# Altium schematic symbol library Main.SchLib: 196 symbols (part 4 of 4)
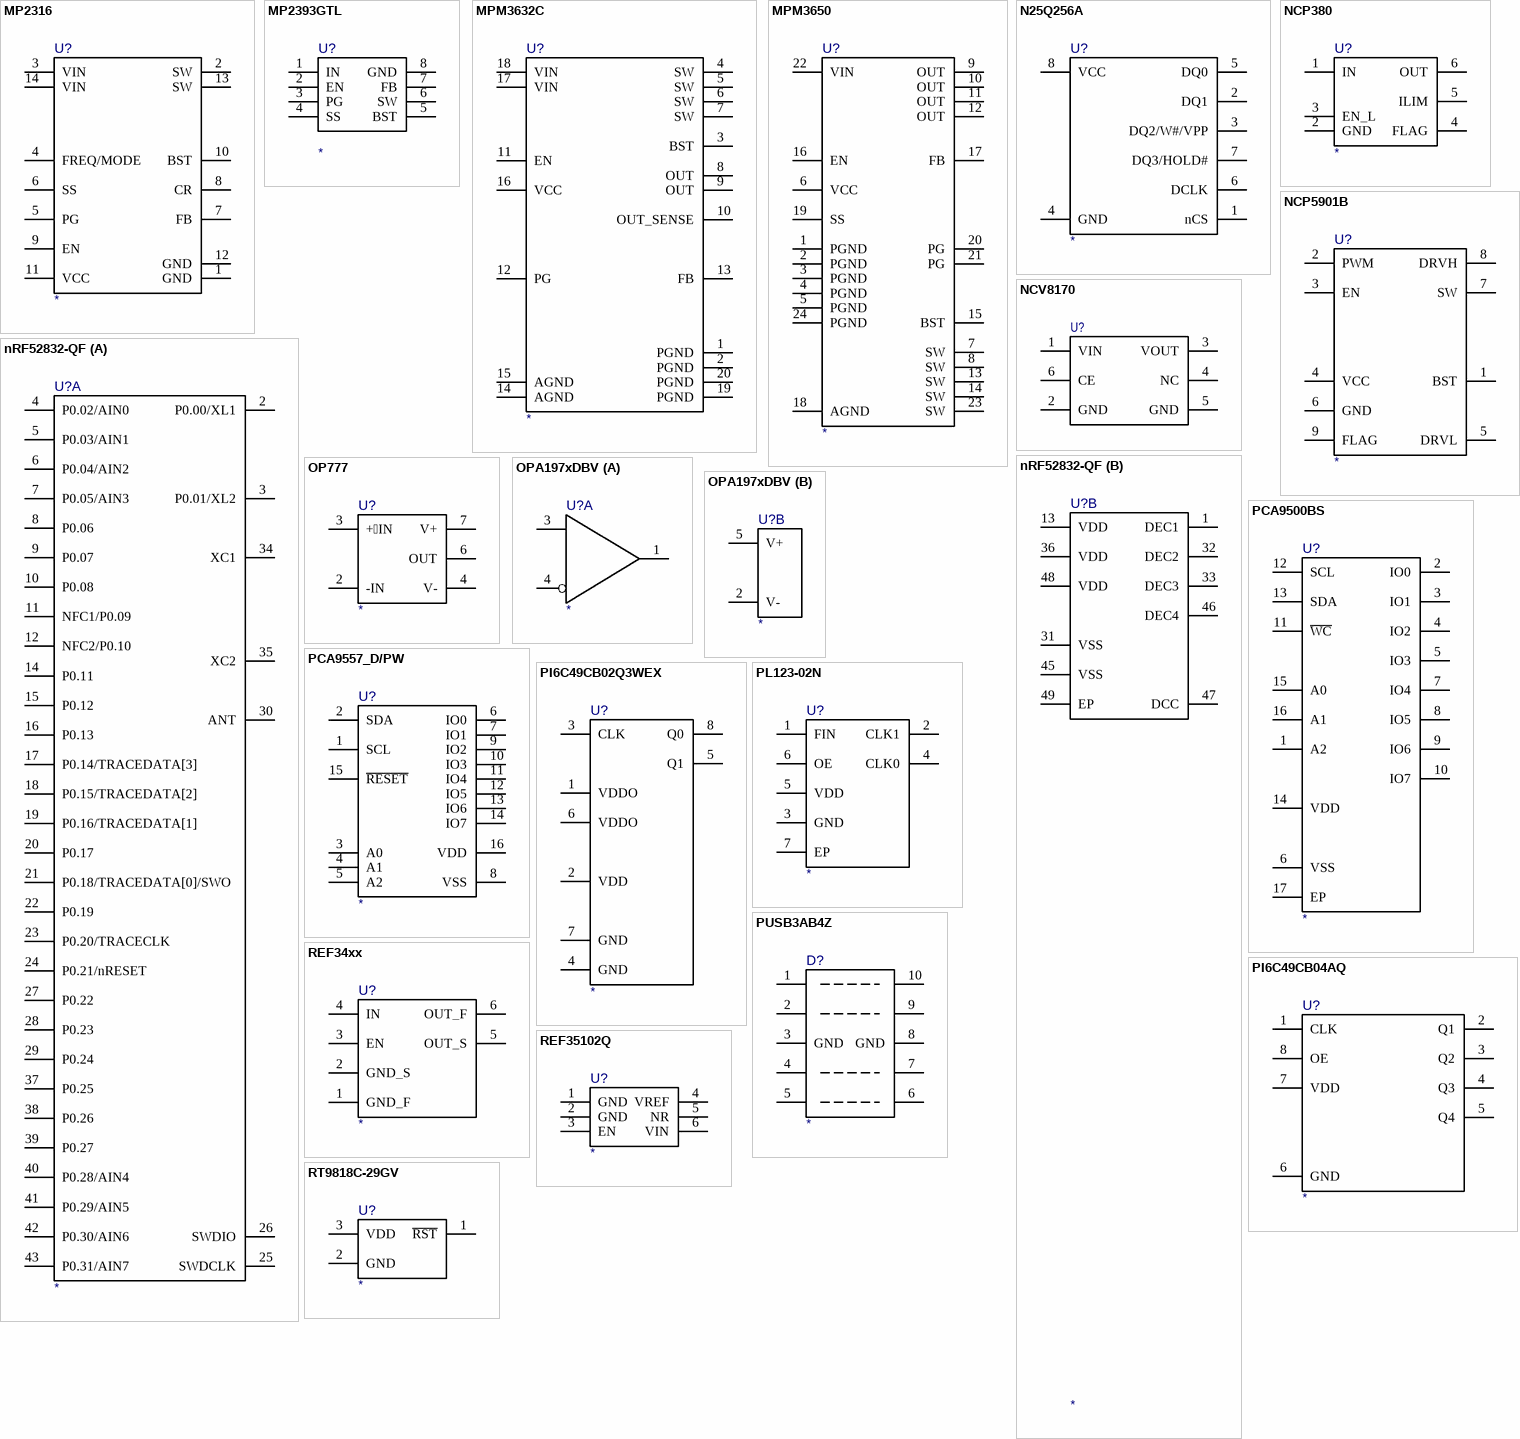
[diagram p43: symbols MP2316 to RT9818C-29GV]

## nRF52832-QF
designator U?
part A pins: 2 P0.00/XL1, 3 P0.01/XL2, 4 P0.02/AIN0, 5 P0.03/AIN1, 6 P0.04/AIN2, 7 P0.05/AIN3, 8 P0.06, 9 P0.07, 10 P0.08, 11 NFC1/P0.09, 12 NFC2/P0.10, 14 P0.11, 15 P0.12, 16 P0.13, 17 P0.14/TRACEDATA[3], 18 P0.15/TRACEDATA[2], 19 P0.16/TRACEDATA[1], 20 P0.17, 21 P0.18/TRACEDATA[0]/SWO, 22 P0.19, 23 P0.20/TRACECLK, 24 P0.21/nRESET, 25 SWDCLK, 26 SWDIO, 27 P0.22, 28 P0.23, 29 P0.24, 30 ANT, 34 XC1, 35 XC2, 37 P0.25, 38 P0.26, 39 P0.27, 40 P0.28/AIN4, 41 P0.29/AIN5, 42 P0.30/AIN6, 43 P0.31/AIN7
part B pins: 1 DEC1, 13 VDD, 31 VSS, 32 DEC2, 33 DEC3, 36 VDD, 45 VSS, 46 DEC4, 47 DCC, 48 VDD, 49 EP

## OP777
designator U?
pins: 2 -IN, 3 +IN, 4 V-, 6 OUT, 7 V+

## OPA197xDBV
designator U?
part A pins: 1 OUT, 3 +IN, 4 -IN
part B pins: 2 V-, 5 V+

## PCA9500BS
designator U?
pins: 1 A2, 2 IO0, 3 IO1, 4 IO2, 5 IO3, 6 VSS, 7 IO4, 8 IO5, 9 IO6, 10 IO7, 11 ~{WC}, 12 SCL, 13 SDA, 14 VDD, 15 A0, 16 A1, 17 EP

## PCA9557_D/PW
designator U?
pins: 1 SCL, 2 SDA, 3 A0, 4 A1, 5 A2, 6 IO0, 7 IO1, 8 VSS, 9 IO2, 10 IO3, 11 IO4, 12 IO5, 13 IO6, 14 IO7, 15 ~{RESET}, 16 VDD

## PI6C49CB02Q3WEX
designator U?
pins: 1 VDDO, 2 VDD, 3 CLK, 4 GND, 5 Q1, 6 VDDO, 7 GND, 8 Q0

## PI6C49CB04AQ
designator U?
pins: 1 CLK, 2 Q1, 3 Q2, 4 Q3, 5 Q4, 6 GND, 7 VDD, 8 OE

## PL123-02N
designator U?
pins: 1 FIN, 2 CLK1, 3 GND, 4 CLK0, 5 VDD, 6 OE, 7 EP

## PUSB3AB4Z
designator D?
pins: 1 CH1, 2 CH2, 3 GND, 4 CH3, 5 CH4, 6 NC, 7 NC, 8 GND, 9 NC, 10 NC

## REF34xx
designator U?
pins: 1 GND_F, 2 GND_S, 3 EN, 4 IN, 5 OUT_S, 6 OUT_F

## REF35102Q
designator U?
pins: 1 GND, 2 GND, 3 EN, 4 VREF, 5 NR, 6 VIN

## RT9818C-29GV
designator U?
pins: 1 ~{RST}, 2 GND, 3 VDD

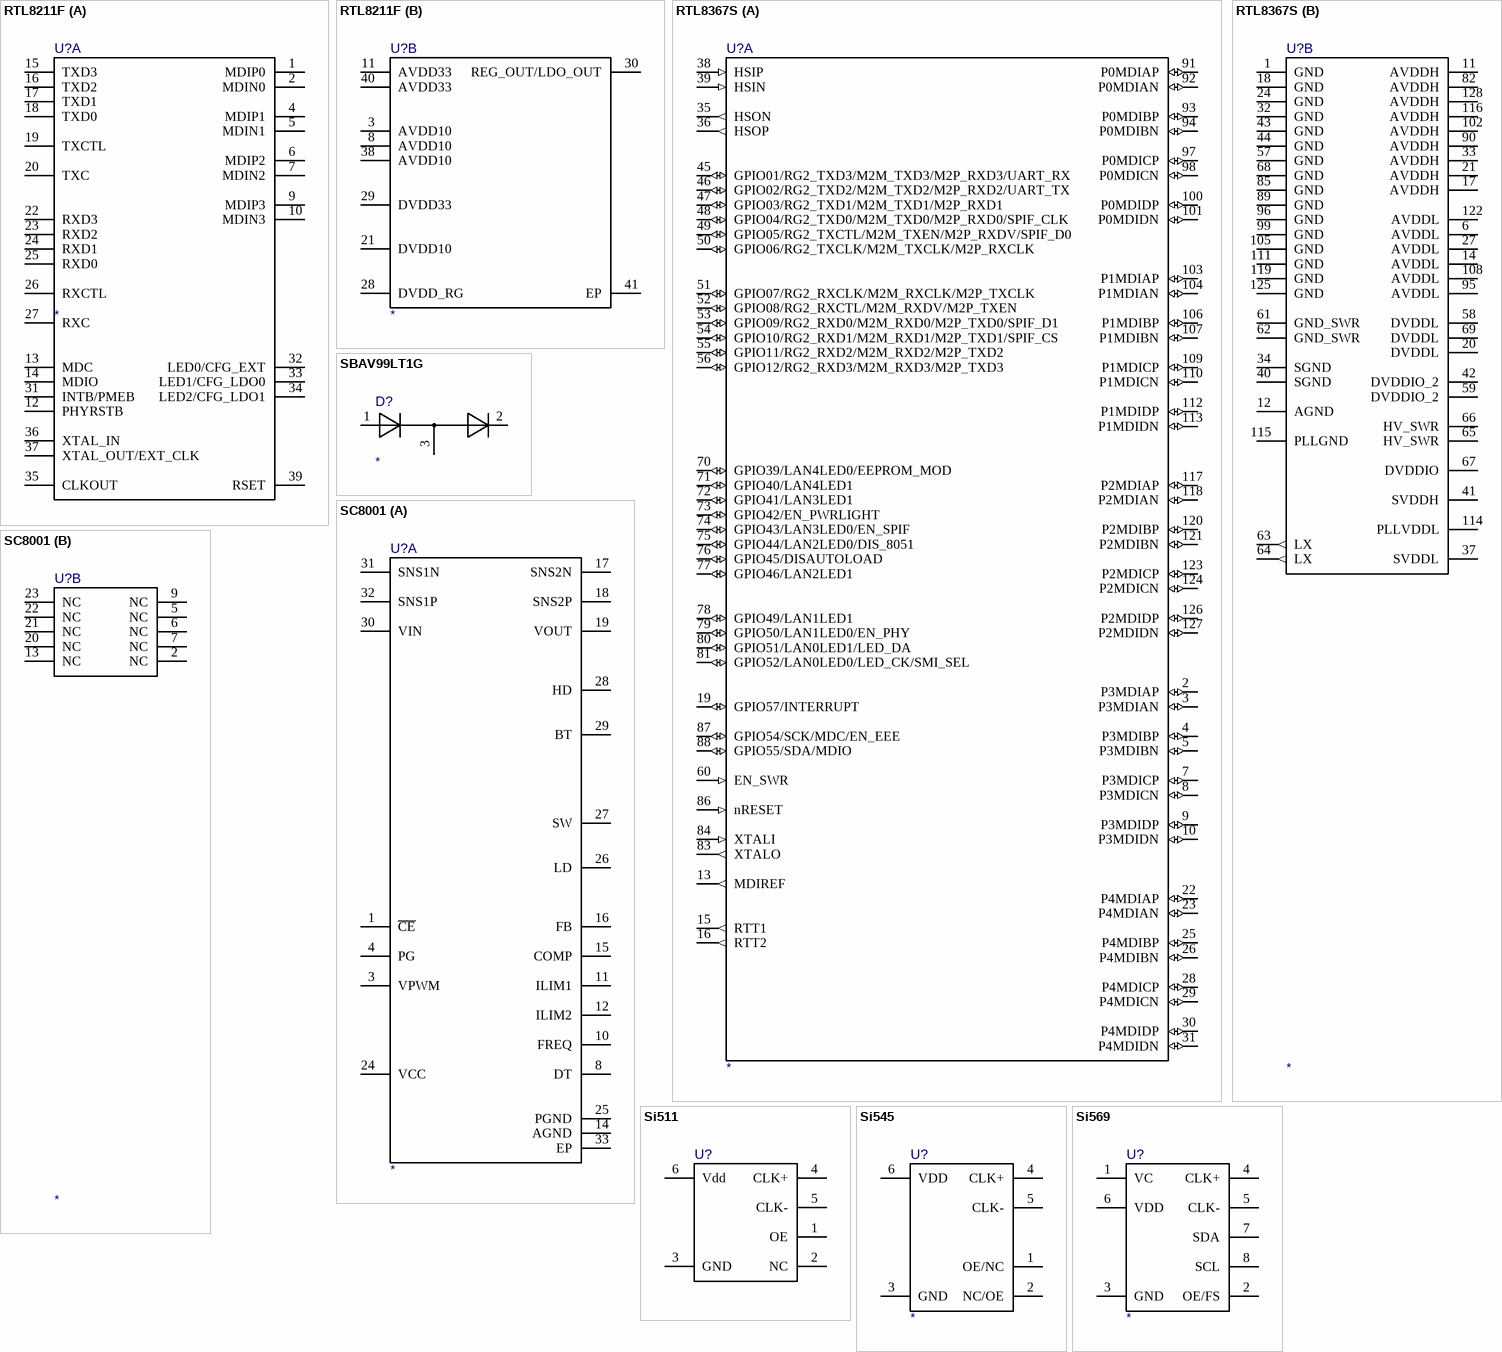
[diagram p32: symbols RTL8211F to Si569]

## RTL8211F
designator U?
part A pins: 1 MDIP0, 2 MDIN0, 4 MDIP1, 5 MDIN1, 6 MDIP2, 7 MDIN2, 9 MDIP3, 10 MDIN3, 12 PHYRSTB, 13 MDC, 14 MDIO, 15 TXD3, 16 TXD2, 17 TXD1, 18 TXD0, 19 TXCTL, 20 TXC, 22 RXD3, 23 RXD2, 24 RXD1, 25 RXD0, 26 RXCTL, 27 RXC, 31 INTB/PMEB, 32 LED0/CFG_EXT, 33 LED1/CFG_LDO0, 34 LED2/CFG_LDO1, 35 CLKOUT, 36 XTAL_IN, 37 XTAL_OUT/EXT_CLK, 39 RSET
part B pins: 3 AVDD10, 8 AVDD10, 11 AVDD33, 21 DVDD10, 28 DVDD_RG, 29 DVDD33, 30 REG_OUT/LDO_OUT, 38 AVDD10, 40 AVDD33, 41 EP

## RTL8367S
designator U?
part A pins: 2 P3MDIAP (io), 3 P3MDIAN (io), 4 P3MDIBP (io), 5 P3MDIBN (io), 7 P3MDICP (io), 8 P3MDICN (io), 9 P3MDIDP (io), 10 P3MDIDN (io), 13 MDIREF (out), 15 RTT1 (out), 16 RTT2 (out), 19 GPIO57/INTERRUPT (io), 22 P4MDIAP (io), 23 P4MDIAN (io), 25 P4MDIBP (io), 26 P4MDIBN (io), 28 P4MDICP (io), 29 P4MDICN (io), 30 P4MDIDP (io), 31 P4MDIDN (io), 35 HSON (out), 36 HSOP (out), 38 HSIP (in), 39 HSIN (in), 45 GPIO01/RG2_TXD3/M2M_TXD3/M2P_RXD3/UART_RX (io), 46 GPIO02/RG2_TXD2/M2M_TXD2/M2P_RXD2/UART_TX (io), 47 GPIO03/RG2_TXD1/M2M_TXD1/M2P_RXD1 (io), 48 GPIO04/RG2_TXD0/M2M_TXD0/M2P_RXD0/SPIF_CLK (io), 49 GPIO05/RG2_TXCTL/M2M_TXEN/M2P_RXDV/SPIF_D0 (io), 50 GPIO06/RG2_TXCLK/M2M_TXCLK/M2P_RXCLK (io), 51 GPIO07/RG2_RXCLK/M2M_RXCLK/M2P_TXCLK (io), 52 GPIO08/RG2_RXCTL/M2M_RXDV/M2P_TXEN (io), 53 GPIO09/RG2_RXD0/M2M_RXD0/M2P_TXD0/SPIF_D1 (io), 54 GPIO10/RG2_RXD1/M2M_RXD1/M2P_TXD1/SPIF_CS (io), 55 GPIO11/RG2_RXD2/M2M_RXD2/M2P_TXD2 (io), 56 GPIO12/RG2_RXD3/M2M_RXD3/M2P_TXD3 (io), 60 EN_SWR (in), 70 GPIO39/LAN4LED0/EEPROM_MOD (io), 71 GPIO40/LAN4LED1 (io), 72 GPIO41/LAN3LED1 (io), 73 GPIO42/EN_PWRLIGHT (io), 74 GPIO43/LAN3LED0/EN_SPIF (io), 75 GPIO44/LAN2LED0/DIS_8051 (io), 76 GPIO45/DISAUTOLOAD (io), 77 GPIO46/LAN2LED1 (io), 78 GPIO49/LAN1LED1 (io), 79 GPIO50/LAN1LED0/EN_PHY (io), 80 GPIO51/LAN0LED1/LED_DA (io), 81 GPIO52/LAN0LED0/LED_CK/SMI_SEL (io), 83 XTALO (out), 84 XTALI (in), 86 nRESET (in), 87 GPIO54/SCK/MDC/EN_EEE (io), 88 GPIO55/SDA/MDIO (io), 91 P0MDIAP (io), 92 P0MDIAN (io), 93 P0MDIBP (io), 94 P0MDIBN (io), 97 P0MDICP (io), 98 P0MDICN (io), 100 P0MDIDP (io), 101 P0MDIDN (io), 103 P1MDIAP (io), 104 P1MDIAN (io), 106 P1MDIBP (io), 107 P1MDIBN (io), 109 P1MDICP (io), 110 P1MDICN (io), 112 P1MDIDP (io), 113 P1MDIDN (io), 117 P2MDIAP (io), 118 P2MDIAN (io), 120 P2MDIBP (io), 121 P2MDIBN (io), 123 P2MDICP (io), 124 P2MDICN (io), 126 P2MDIDP (io), 127 P2MDIDN (io)
part B pins: 1 GND, 6 AVDDL, 11 AVDDH, 12 AGND, 14 AVDDL, 17 AVDDH, 18 GND, 20 DVDDL, 21 AVDDH, 24 GND, 27 AVDDL, 32 GND, 33 AVDDH, 34 SGND, 37 SVDDL, 40 SGND, 41 SVDDH, 42 DVDDIO_2, 43 GND, 44 GND, 57 GND, 58 DVDDL, 59 DVDDIO_2, 61 GND_SWR, 62 GND_SWR, 63 LX (out), 64 LX (out), 65 HV_SWR, 66 HV_SWR, 67 DVDDIO, 68 GND, 69 DVDDL, 82 AVDDH, 85 GND, 89 GND, 90 AVDDH, 95 AVDDL, 96 GND, 99 GND, 102 AVDDH, 105 GND, 108 AVDDL, 111 GND, 114 PLLVDDL, 115 PLLGND, 116 AVDDH, 119 GND, 122 AVDDL, 125 GND, 128 AVDDH

## SBAV99LT1G
designator D?
pins: 1 C, 2 A, 3 A

## SC8001
designator U?
part A pins: 1 ~{CE}, 3 VPWM, 4 PG, 8 DT, 10 FREQ, 11 ILIM1, 12 ILIM2, 14 AGND, 15 COMP, 16 FB, 17 SNS2N, 18 SNS2P, 19 VOUT, 24 VCC, 25 PGND, 26 LD, 27 SW, 28 HD, 29 BT, 30 VIN, 31 SNS1N, 32 SNS1P, 33 EP
part B pins: 2 NC, 5 NC, 6 NC, 7 NC, 9 NC, 13 NC, 20 NC, 21 NC, 22 NC, 23 NC

## Si511
designator U?
pins: 1 OE, 2 NC, 3 GND, 4 CLK+, 5 CLK-, 6 Vdd

## Si545
designator U?
pins: 1 OE/NC, 2 NC/OE, 3 GND, 4 CLK+, 5 CLK-, 6 VDD

## Si569
designator U?
pins: 1 VC, 2 OE/FS, 3 GND, 4 CLK+, 5 CLK-, 6 VDD, 7 SDA, 8 SCL

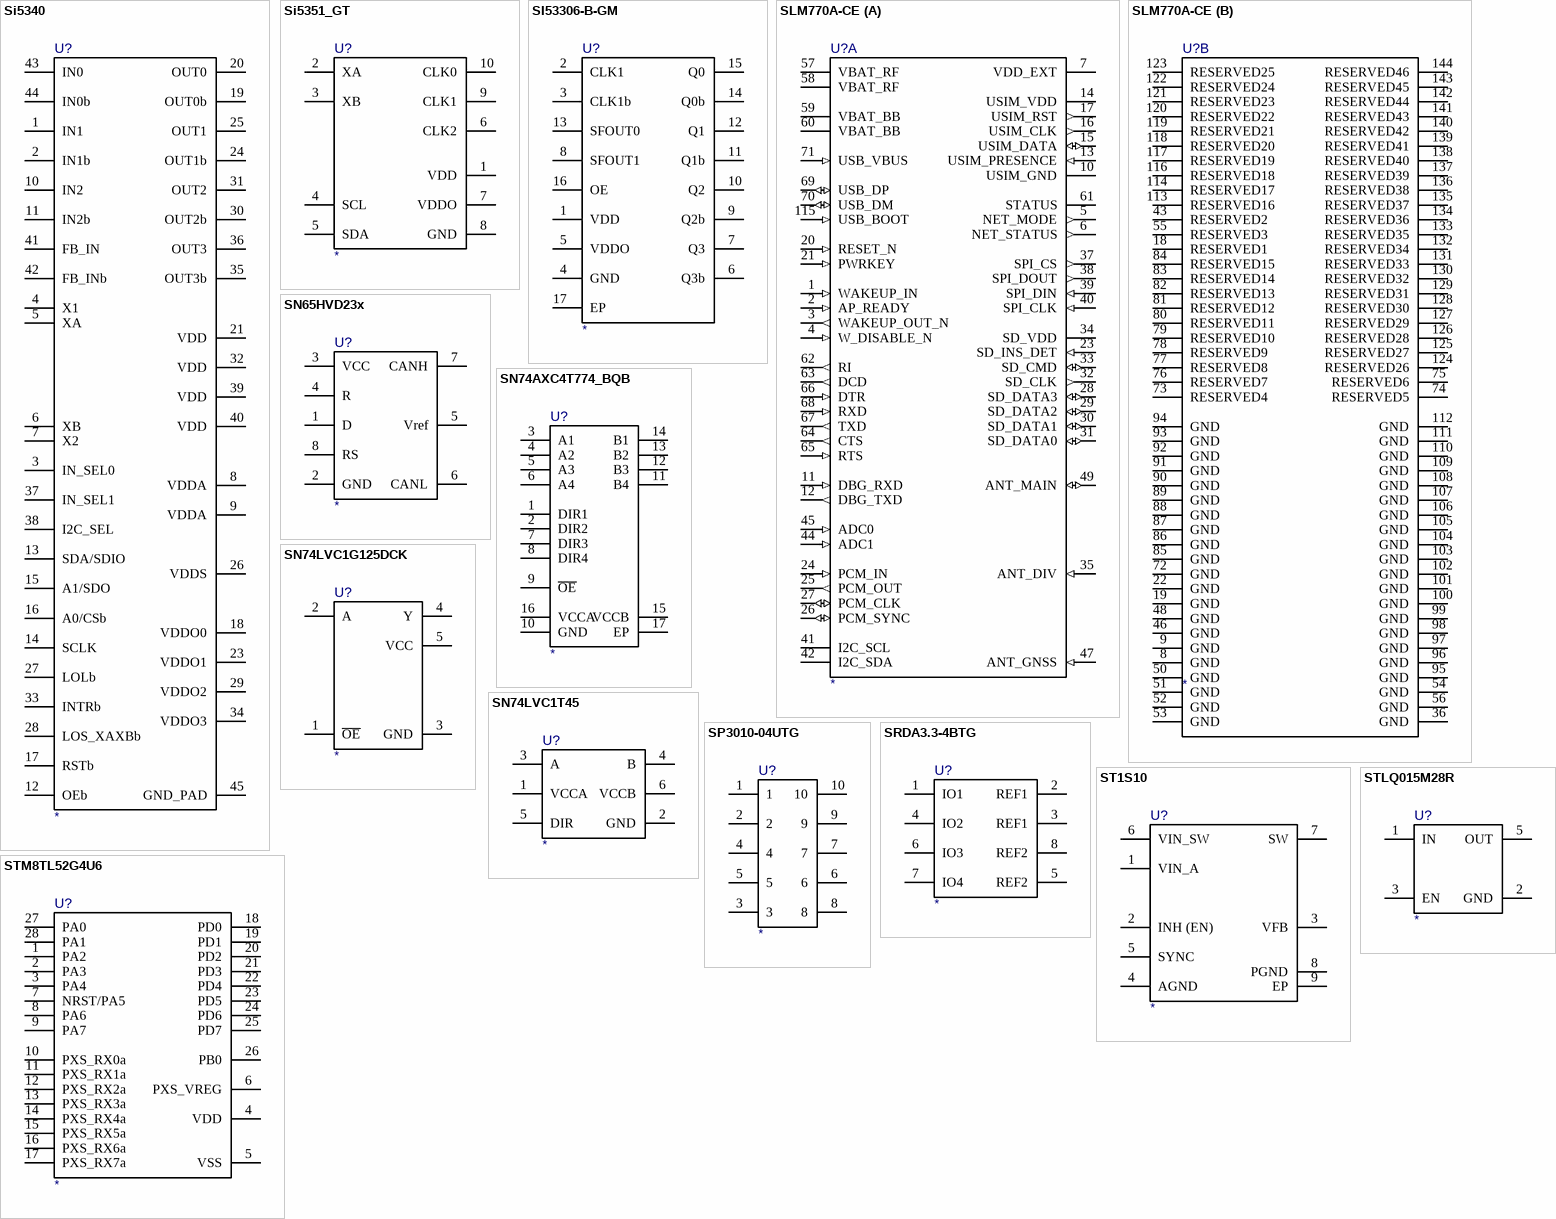
[diagram p33: symbols Si5340 to STM8TL52G4U6]

## Si5340
designator U?
pins: 1 IN1, 2 IN1b, 3 IN_SEL0, 4 X1, 5 XA, 6 XB, 7 X2, 8 VDDA, 9 VDDA, 10 IN2, 11 IN2b, 12 OEb, 13 SDA/SDIO, 14 SCLK, 15 A1/SDO, 16 A0/CSb, 17 RSTb, 18 VDDO0, 19 OUT0b, 20 OUT0, 21 VDD, 23 VDDO1, 24 OUT1b, 25 OUT1, 26 VDDS, 27 LOLb, 28 LOS_XAXBb, 29 VDDO2, 30 OUT2b, 31 OUT2, 32 VDD, 33 INTRb, 34 VDDO3, 35 OUT3b, 36 OUT3, 37 IN_SEL1, 38 I2C_SEL, 39 VDD, 40 VDD, 41 FB_IN, 42 FB_INb, 43 IN0, 44 IN0b, 45 GND_PAD

## Si5351_GT
designator U?
pins: 1 VDD, 2 XA, 3 XB, 4 SCL, 5 SDA, 6 CLK2, 7 VDDO, 8 GND, 9 CLK1, 10 CLK0

## SI53306-B-GM
designator U?
pins: 1 VDD, 2 CLK1, 3 CLK1b, 4 GND, 5 VDDO, 6 Q3b, 7 Q3, 8 SFOUT1, 9 Q2b, 10 Q2, 11 Q1b, 12 Q1, 13 SFOUT0, 14 Q0b, 15 Q0, 16 OE, 17 EP

## SLM770A-CE
designator U?
part A pins: 1 WAKEUP_IN (in), 2 AP_READY (in), 3 WAKEUP_OUT_N (out), 4 W_DISABLE_N (in), 5 NET_MODE (out), 6 NET_STATUS (out), 7 VDD_EXT (power), 10 USIM_GND (power), 11 DBG_RXD (in), 12 DBG_TXD (out), 13 USIM_PRESENCE (in), 14 USIM_VDD (power), 15 USIM_DATA (io), 16 USIM_CLK (out), 17 USIM_RST (out), 20 RESET_N (in), 21 PWRKEY (in), 23 SD_INS_DET (in), 24 PCM_IN (in), 25 PCM_OUT (out), 26 PCM_SYNC (io), 27 PCM_CLK (io), 28 SD_DATA3 (io), 29 SD_DATA2 (io), 30 SD_DATA1 (io), 31 SD_DATA0 (io), 32 SD_CLK (out), 33 SD_CMD (io), 34 SD_VDD, 35 ANT_DIV (in), 37 SPI_CS (out), 38 SPI_DOUT (out), 39 SPI_DIN (in), 40 SPI_CLK (in), 41 I2C_SCL (oc), 42 I2C_SDA (oc), 44 ADC1 (in), 45 ADC0 (in), 47 ANT_GNSS (in), 49 ANT_MAIN (io), 57 VBAT_RF (power), 58 VBAT_RF (power), 59 VBAT_BB (power), 60 VBAT_BB (power), 61 STATUS (oc), 62 RI (out), 63 DCD (out), 64 CTS (out), 65 RTS (in), 66 DTR (in), 67 TXD (out), 68 RXD (in), 69 USB_DP (io), 70 USB_DM (io), 71 USB_VBUS (in), 115 USB_BOOT (in)
part B pins: 8 GND (power), 9 GND (power), 18 RESERVED1, 19 GND (power), 22 GND (power), 36 GND (power), 43 RESERVED2, 46 GND (power), 48 GND (power), 50 GND (power), 51 GND (power), 52 GND (power), 53 GND (power), 54 GND (power), 55 RESERVED3, 56 GND (power), 72 GND (power), 73 RESERVED4, 74 RESERVED5, 75 RESERVED6, 76 RESERVED7, 77 RESERVED8, 78 RESERVED9, 79 RESERVED10, 80 RESERVED11, 81 RESERVED12, 82 RESERVED13, 83 RESERVED14, 84 RESERVED15, 85 GND (power), 86 GND (power), 87 GND (power), 88 GND (power), 89 GND (power), 90 GND (power), 91 GND (power), 92 GND (power), 93 GND (power), 94 GND (power), 95 GND (power), 96 GND (power), 97 GND (power), 98 GND (power), 99 GND (power), 100 GND (power), 101 GND (power), 102 GND (power), 103 GND (power), 104 GND (power), 105 GND (power), 106 GND (power), 107 GND (power), 108 GND (power), 109 GND (power), 110 GND (power), 111 GND (power), 112 GND (power), 113 RESERVED16, 114 RESERVED17, 116 RESERVED18, 117 RESERVED19, 118 RESERVED20, 119 RESERVED21, 120 RESERVED22, 121 RESERVED23, 122 RESERVED24, 123 RESERVED25, 124 RESERVED26, 125 RESERVED27, 126 RESERVED28, 127 RESERVED29, 128 RESERVED30, 129 RESERVED31, 130 RESERVED32, 131 RESERVED33, 132 RESERVED34, 133 RESERVED35, 134 RESERVED36, 135 RESERVED37, 136 RESERVED38, 137 RESERVED39, 138 RESERVED40, 139 RESERVED41, 140 RESERVED42, 141 RESERVED43, 142 RESERVED44, 143 RESERVED45, 144 RESERVED46

## SN65HVD23x
designator U?
pins: 1 D, 2 GND, 3 VCC, 4 R, 5 Vref, 6 CANL, 7 CANH, 8 RS

## SN74AXC4T774_BQB
designator U?
pins: 1 DIR1, 2 DIR2, 3 A1, 4 A2, 5 A3, 6 A4, 7 DIR3, 8 DIR4, 9 ~{OE}, 10 GND, 11 B4, 12 B3, 13 B2, 14 B1, 15 VCCB, 16 VCCA, 17 EP

## SN74LVC1G125DCK
designator U?
pins: 1 ~{OE}, 2 A, 3 GND, 4 Y, 5 VCC

## SN74LVC1T45
designator U?
pins: 1 VCCA, 2 GND, 3 A, 4 B, 5 DIR, 6 VCCB

## SP3010-04UTG
designator U?
pins: 1, 2, 3, 4, 5, 6, 7, 8, 9, 10

## SRDA3.3-4BTG
designator U?
pins: 1 IO1, 2 REF1, 3 REF1, 4 IO2, 5 REF2, 6 IO3, 7 IO4, 8 REF2

## ST1S10
designator U?
pins: 1 VIN_A, 2 INH (EN), 3 VFB, 4 AGND, 5 SYNC, 6 VIN_SW, 7 SW, 8 PGND, 9 EP

## STLQ015M28R
designator U?
pins: 1 IN, 2 GND, 3 EN, 5 OUT

## STM8TL52G4U6
designator U?
pins: 1 PA2, 2 PA3, 3 PA4, 4 VDD, 5 VSS, 6 PXS_VREG, 7 NRST/PA5, 8 PA6, 9 PA7, 10 PXS_RX0a, 11 PXS_RX1a, 12 PXS_RX2a, 13 PXS_RX3a, 14 PXS_RX4a, 15 PXS_RX5a, 16 PXS_RX6a, 17 PXS_RX7a, 18 PD0, 19 PD1, 20 PD2, 21 PD3, 22 PD4, 23 PD5, 24 PD6, 25 PD7, 26 PB0, 27 PA0, 28 PA1

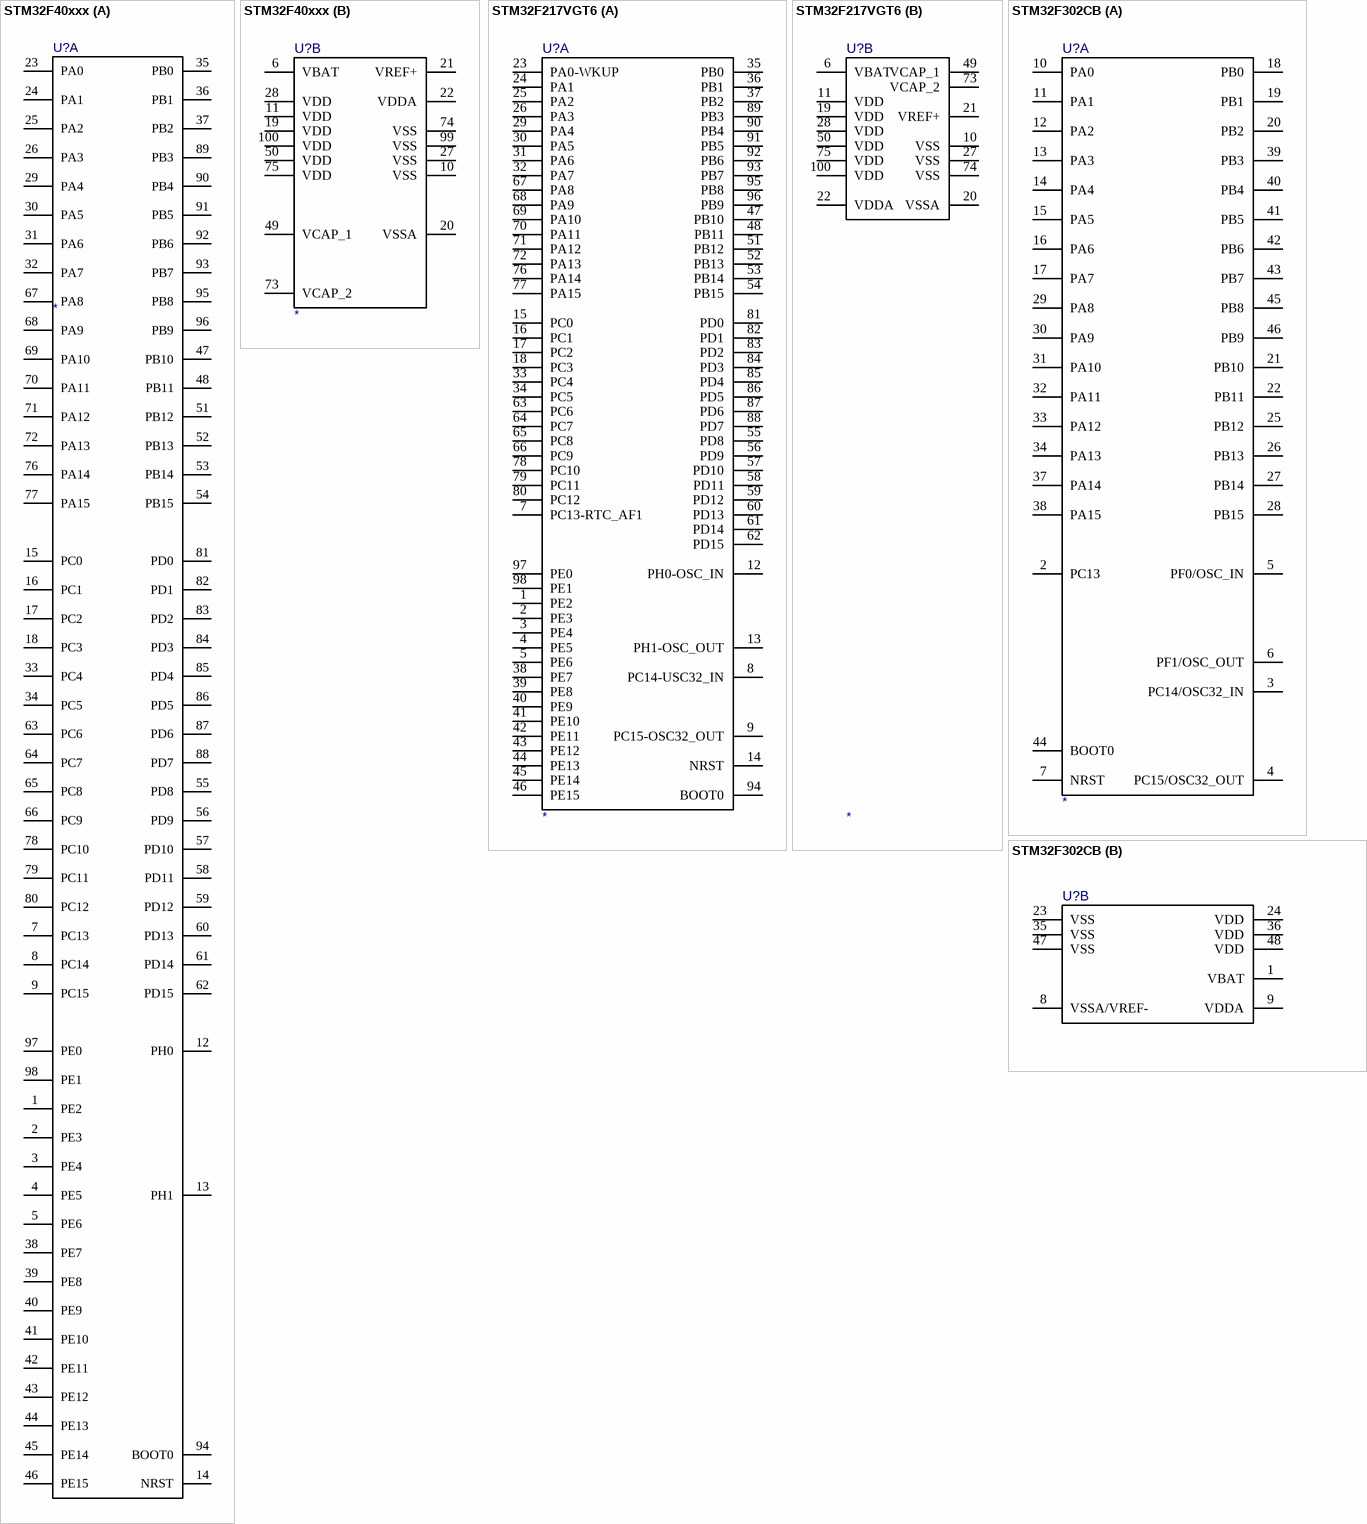
[diagram p34: symbols STM32F40xxx to STM32F302CB]

## STM32F40xxx
designator U?
part A pins: 1 PE2, 2 PE3, 3 PE4, 4 PE5, 5 PE6, 7 PC13, 8 PC14, 9 PC15, 12 PH0, 13 PH1, 14 NRST, 15 PC0, 16 PC1, 17 PC2, 18 PC3, 23 PA0, 24 PA1, 25 PA2, 26 PA3, 29 PA4, 30 PA5, 31 PA6, 32 PA7, 33 PC4, 34 PC5, 35 PB0, 36 PB1, 37 PB2, 38 PE7, 39 PE8, 40 PE9, 41 PE10, 42 PE11, 43 PE12, 44 PE13, 45 PE14, 46 PE15, 47 PB10, 48 PB11, 51 PB12, 52 PB13, 53 PB14, 54 PB15, 55 PD8, 56 PD9, 57 PD10, 58 PD11, 59 PD12, 60 PD13, 61 PD14, 62 PD15, 63 PC6, 64 PC7, 65 PC8, 66 PC9, 67 PA8, 68 PA9, 69 PA10, 70 PA11, 71 PA12, 72 PA13, 76 PA14, 77 PA15, 78 PC10, 79 PC11, 80 PC12, 81 PD0, 82 PD1, 83 PD2, 84 PD3, 85 PD4, 86 PD5, 87 PD6, 88 PD7, 89 PB3, 90 PB4, 91 PB5, 92 PB6, 93 PB7, 94 BOOT0, 95 PB8, 96 PB9, 97 PE0, 98 PE1
part B pins: 6 VBAT, 10 VSS, 11 VDD, 19 VDD, 20 VSSA, 21 VREF+, 22 VDDA, 27 VSS, 28 VDD, 49 VCAP_1, 50 VDD, 73 VCAP_2, 74 VSS, 75 VDD, 99 VSS, 100 VDD

## STM32F217VGT6
designator U?
part A pins: 1 PE2, 2 PE3, 3 PE4, 4 PE5, 5 PE6, 7 PC13-RTC_AF1, 8 PC14-USC32_IN, 9 PC15-OSC32_OUT, 12 PH0-OSC_IN, 13 PH1-OSC_OUT, 14 NRST, 15 PC0, 16 PC1, 17 PC2, 18 PC3, 23 PA0-WKUP, 24 PA1, 25 PA2, 26 PA3, 29 PA4, 30 PA5, 31 PA6, 32 PA7, 33 PC4, 34 PC5, 35 PB0, 36 PB1, 37 PB2, 38 PE7, 39 PE8, 40 PE9, 41 PE10, 42 PE11, 43 PE12, 44 PE13, 45 PE14, 46 PE15, 47 PB10, 48 PB11, 51 PB12, 52 PB13, 53 PB14, 54 PB15, 55 PD8, 56 PD9, 57 PD10, 58 PD11, 59 PD12, 60 PD13, 61 PD14, 62 PD15, 63 PC6, 64 PC7, 65 PC8, 66 PC9, 67 PA8, 68 PA9, 69 PA10, 70 PA11, 71 PA12, 72 PA13, 76 PA14, 77 PA15, 78 PC10, 79 PC11, 80 PC12, 81 PD0, 82 PD1, 83 PD2, 84 PD3, 85 PD4, 86 PD5, 87 PD6, 88 PD7, 89 PB3, 90 PB4, 91 PB5, 92 PB6, 93 PB7, 94 BOOT0, 95 PB8, 96 PB9, 97 PE0, 98 PE1
part B pins: 6 VBAT, 10 VSS, 11 VDD, 19 VDD, 20 VSSA, 21 VREF+, 22 VDDA, 27 VSS, 28 VDD, 49 VCAP_1, 50 VDD, 73 VCAP_2, 74 VSS, 75 VDD, 100 VDD

## STM32F302CB
designator U?
part A pins: 2 PC13, 3 PC14/OSC32_IN, 4 PC15/OSC32_OUT, 5 PF0/OSC_IN, 6 PF1/OSC_OUT, 7 NRST, 10 PA0, 11 PA1, 12 PA2, 13 PA3, 14 PA4, 15 PA5, 16 PA6, 17 PA7, 18 PB0, 19 PB1, 20 PB2, 21 PB10, 22 PB11, 25 PB12, 26 PB13, 27 PB14, 28 PB15, 29 PA8, 30 PA9, 31 PA10, 32 PA11, 33 PA12, 34 PA13, 37 PA14, 38 PA15, 39 PB3, 40 PB4, 41 PB5, 42 PB6, 43 PB7, 44 BOOT0, 45 PB8, 46 PB9
part B pins: 1 VBAT, 8 VSSA/VREF-, 9 VDDA, 23 VSS, 24 VDD, 35 VSS, 36 VDD, 47 VSS, 48 VDD

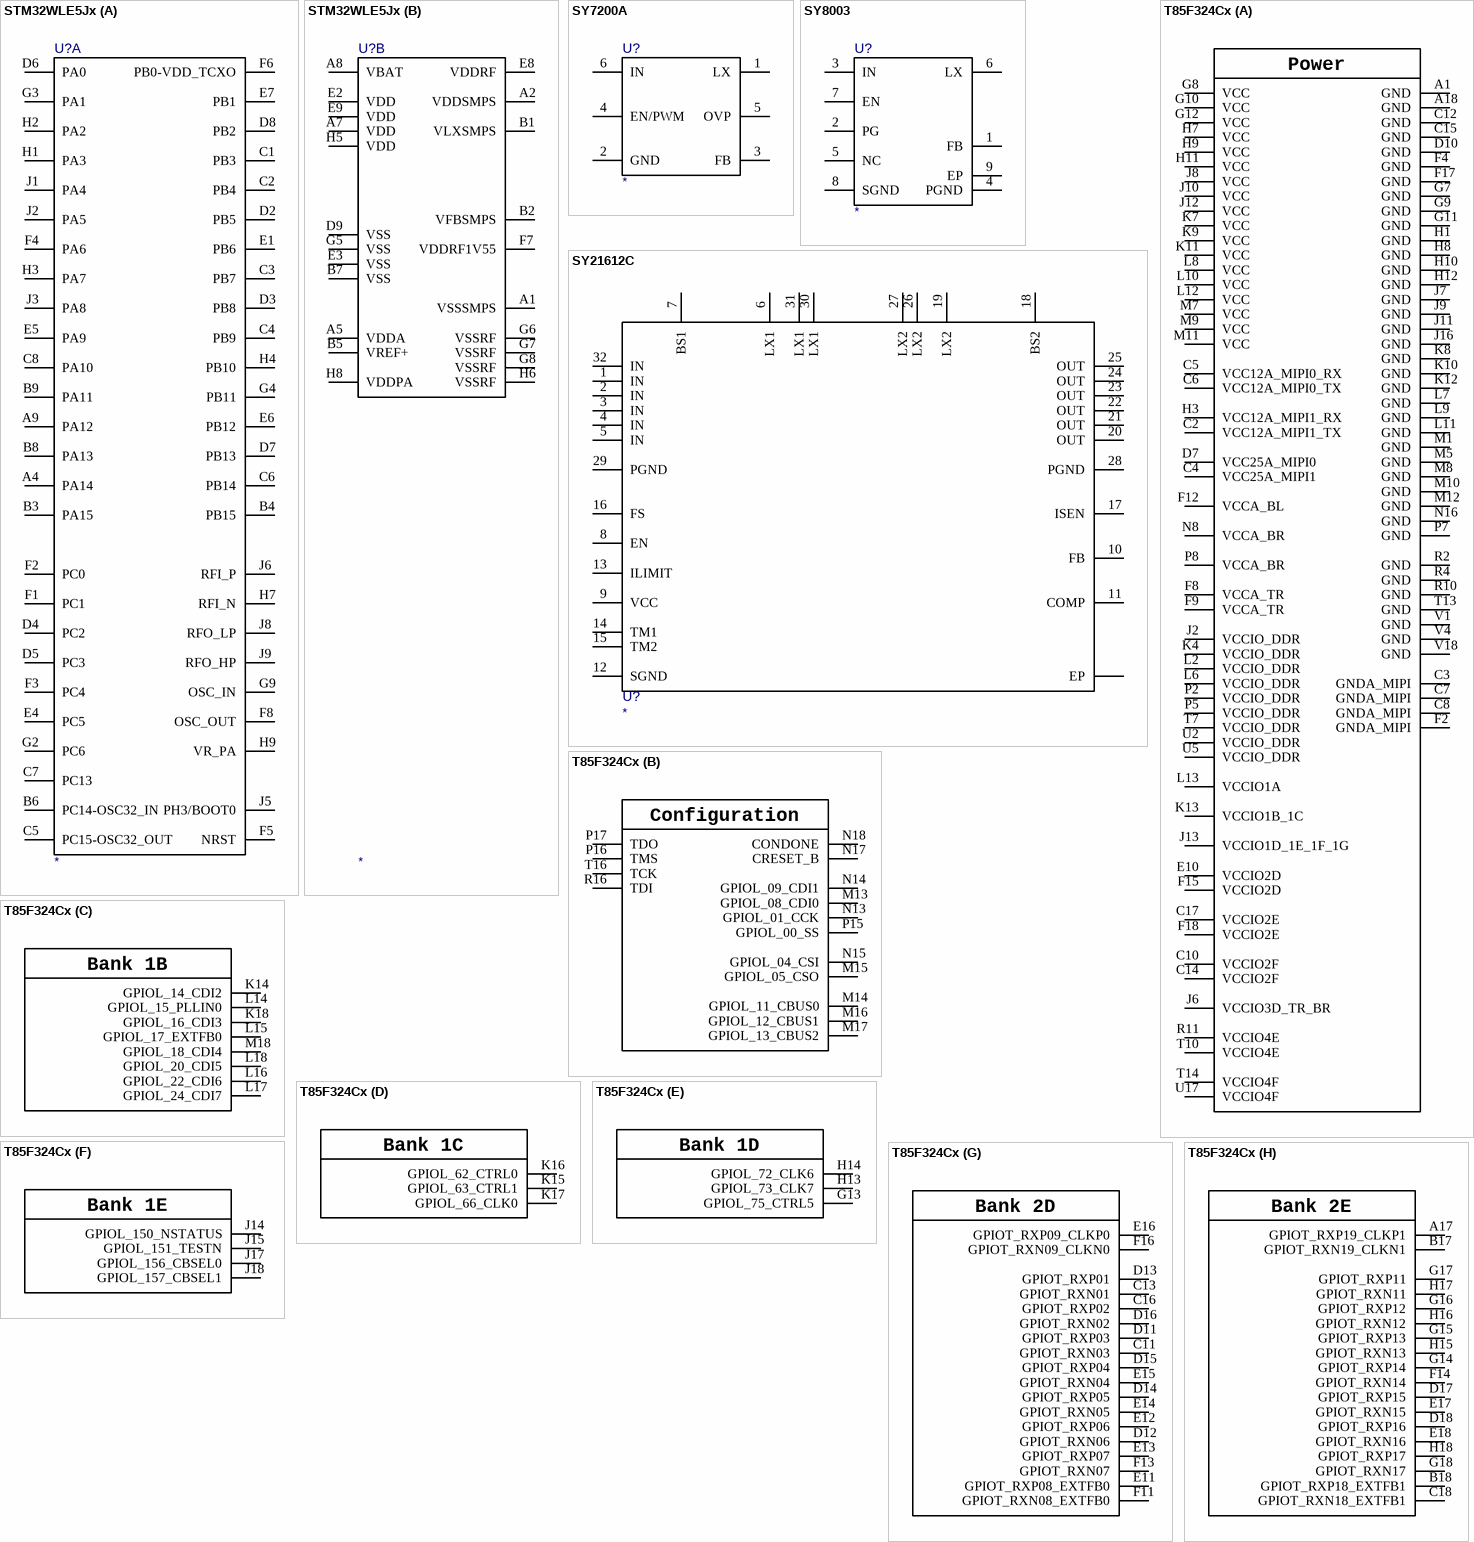
[diagram p35: symbols STM32WLE5Jx to T85F324Cx]

## STM32WLE5Jx
designator U?
part A pins: A4 PA14, A9 PA12, B3 PA15, B4 PB15, B6 PC14-OSC32_IN, B8 PA13, B9 PA11, C1 PB3, C2 PB4, C3 PB7, C4 PB9, C5 PC15-OSC32_OUT, C6 PB14, C7 PC13, C8 PA10, D2 PB5, D3 PB8, D4 PC2, D5 PC3, D6 PA0, D7 PB13, D8 PB2, E1 PB6, E4 PC5, E5 PA9, E6 PB12, E7 PB1, F1 PC1, F2 PC0, F3 PC4, F4 PA6, F5 NRST, F6 PB0-VDD_TCXO, F8 OSC_OUT, G2 PC6, G3 PA1, G4 PB11, G9 OSC_IN, H1 PA3, H2 PA2, H3 PA7, H4 PB10, H7 RFI_N, H9 VR_PA, J1 PA4, J2 PA5, J3 PA8, J5 PH3/BOOT0, J6 RFI_P, J8 RFO_LP, J9 RFO_HP
part B pins: A1 VSSSMPS, A2 VDDSMPS, A5 VDDA, A7 VDD, A8 VBAT, B1 VLXSMPS, B2 VFBSMPS, B5 VREF+, B7 VSS, D9 VSS, E2 VDD, E3 VSS, E8 VDDRF, E9 VDD, F7 VDDRF1V55, G5 VSS, G6 VSSRF, G7 VSSRF, G8 VSSRF, H5 VDD, H6 VSSRF, H8 VDDPA

## SY7200A
designator U?
pins: 1 LX, 2 GND, 3 FB, 4 EN/PWM, 5 OVP, 6 IN

## SY8003
designator U?
pins: 1 FB, 2 PG, 3 IN, 4 PGND, 5 NC, 6 LX, 7 EN, 8 SGND, 9 EP

## SY21612C
designator U?
pins: 1 IN, 2 IN, 3 IN, 4 IN, 5 IN, 6 LX1, 7 BS1, 8 EN, 9 VCC, 10 FB, 11 COMP, 12 SGND, 13 ILIMIT, 14 TM1, 15 TM2, 16 FS, 17 ISEN, 18 BS2, 19 LX2, 20 OUT, 21 OUT, 22 OUT, 23 OUT, 24 OUT, 25 OUT, 26 LX2, 27 LX2, 28 PGND, 29 PGND, 30 LX1, 31 LX1, 32 IN, EP

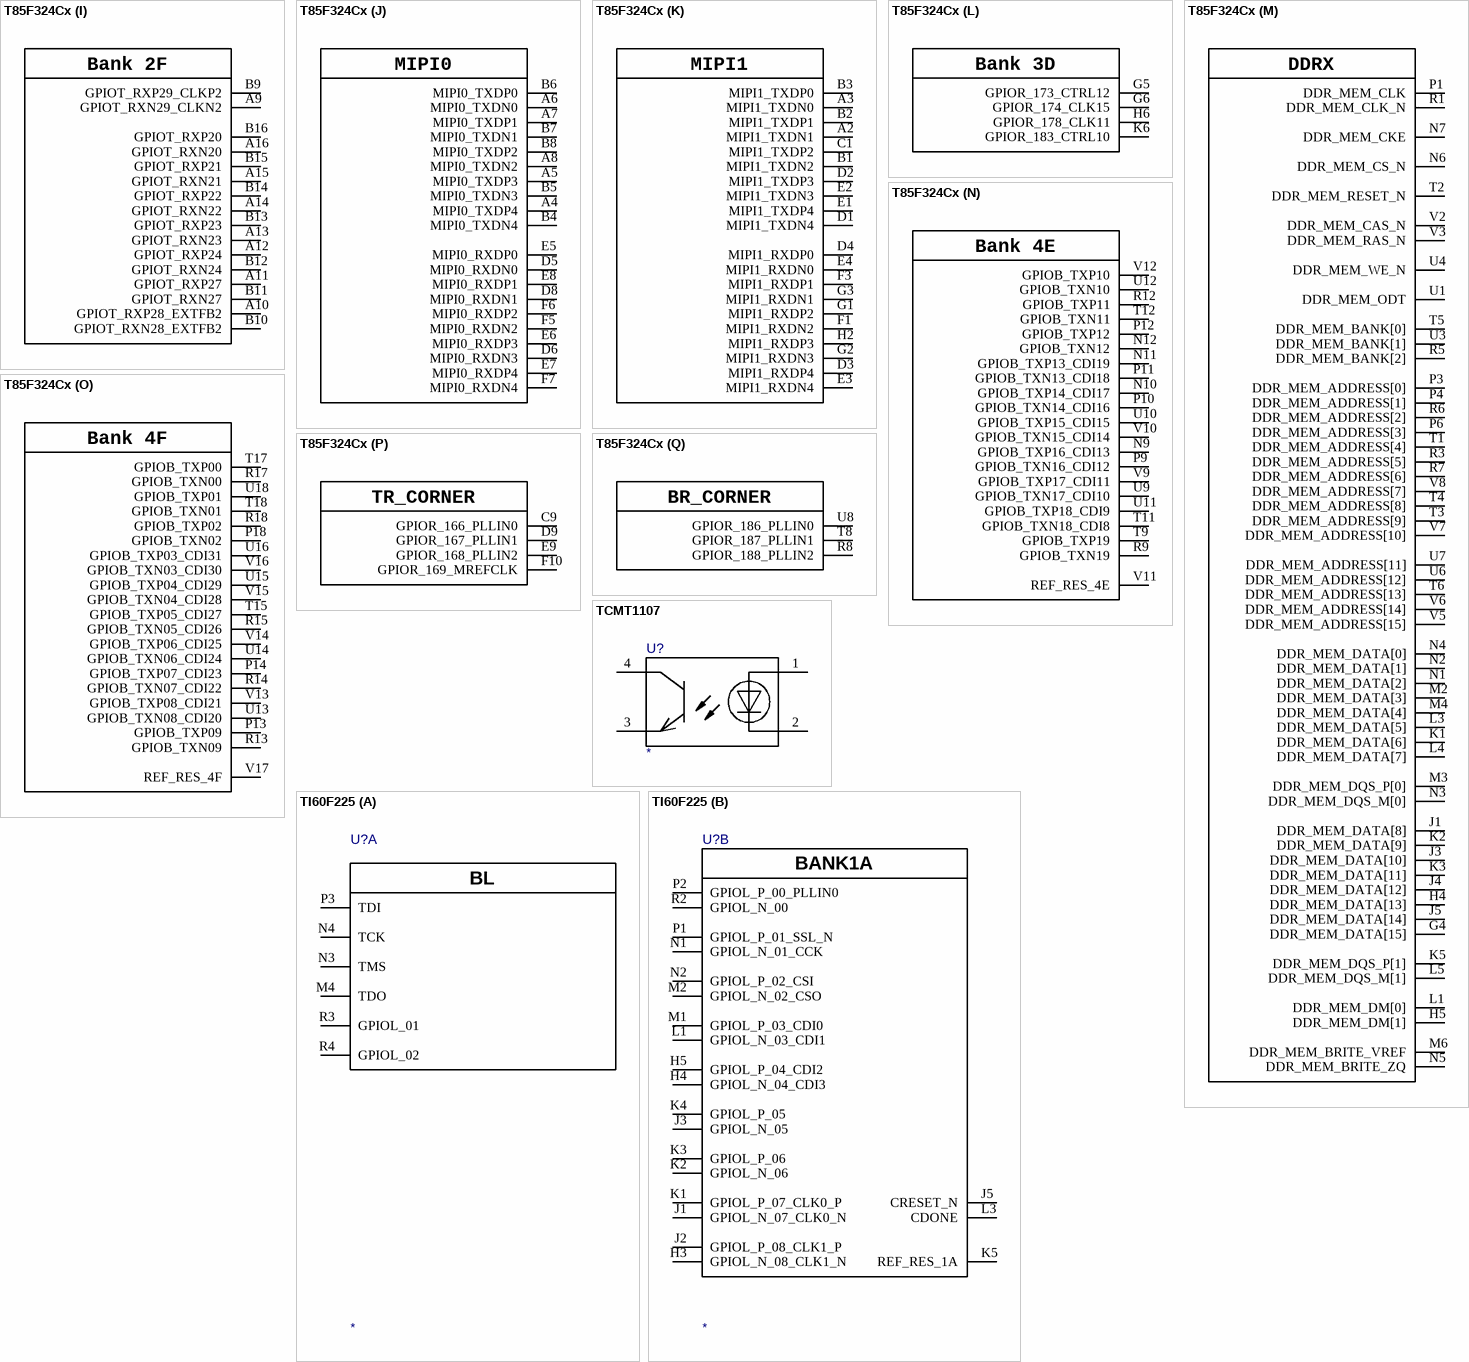
[diagram p36: symbols T85F324Cx to TI60F225]

## T85F324Cx
designator U?  (value not drawn)
part A pins: A1 GND, A18 GND, C2 VCC12A_MIPI1_TX, C3 GNDA_MIPI, C4 VCC25A_MIPI1, C5 VCC12A_MIPI0_RX, C6 VCC12A_MIPI0_TX, C7 GNDA_MIPI, C8 GNDA_MIPI, C10 VCCIO2F, C12 GND, C14 VCCIO2F, C15 GND, C17 VCCIO2E, D7 VCC25A_MIPI0, D10 GND, E10 VCCIO2D, F2 GNDA_MIPI, F4 GND, F8 VCCA_TR, F9 VCCA_TR, F12 VCCA_BL, F15 VCCIO2D, F17 GND, F18 VCCIO2E, G7 GND, G8 VCC, G9 GND, G10 VCC, G11 GND, G12 VCC, H1 GND, H3 VCC12A_MIPI1_RX, H7 VCC, H8 GND, H9 VCC, H10 GND, H11 VCC, H12 GND, J2 VCCIO_DDR, J6 VCCIO3D_TR_BR, J7 GND, J8 VCC, J9 GND, J10 VCC, J11 GND, J12 VCC, J13 VCCIO1D_1E_1F_1G, J16 GND, K4 VCCIO_DDR, K7 VCC, K8 GND, K9 VCC, K10 GND, K11 VCC, K12 GND, K13 VCCIO1B_1C, L2 VCCIO_DDR, L6 VCCIO_DDR, L7 GND, L8 VCC, L9 GND, L10 VCC, L11 GND, L12 VCC, L13 VCCIO1A, M1 GND, M5 GND, M7 VCC, M8 GND, M9 VCC, M10 GND, M11 VCC, M12 GND, N8 VCCA_BR, N16 GND, P2 VCCIO_DDR, P5 VCCIO_DDR, P7 GND, P8 VCCA_BR, R2 GND, R4 GND, R10 GND, R11 VCCIO4E, T7 VCCIO_DDR, T10 VCCIO4E, T13 GND, T14 VCCIO4F, U2 VCCIO_DDR, U5 VCCIO_DDR, U17 VCCIO4F, V1 GND, V4 GND, V18 GND
part B pins: M13 GPIOL_08_CDI0, M14 GPIOL_11_CBUS0, M15 GPIOL_05_CSO, M16 GPIOL_12_CBUS1, M17 GPIOL_13_CBUS2, N13 GPIOL_01_CCK, N14 GPIOL_09_CDI1, N15 GPIOL_04_CSI, N17 CRESET_B, N18 CONDONE, P15 GPIOL_00_SS, P16 TMS, P17 TDO, R16 TDI, T16 TCK
part C pins: K14 GPIOL_14_CDI2, K18 GPIOL_16_CDI3, L14 GPIOL_15_PLLIN0, L15 GPIOL_17_EXTFB0, L16 GPIOL_22_CDI6, L17 GPIOL_24_CDI7, L18 GPIOL_20_CDI5, M18 GPIOL_18_CDI4
part D pins: K15 GPIOL_63_CTRL1, K16 GPIOL_62_CTRL0, K17 GPIOL_66_CLK0
part E pins: G13 GPIOL_75_CTRL5, H13 GPIOL_73_CLK7, H14 GPIOL_72_CLK6
part F pins: J14 GPIOL_150_NSTATUS, J15 GPIOL_151_TESTN, J17 GPIOL_156_CBSEL0, J18 GPIOL_157_CBSEL1
part G pins: C11 GPIOT_RXN03, C13 GPIOT_RXN01, C16 GPIOT_RXP02, D11 GPIOT_RXP03, D12 GPIOT_RXN06, D13 GPIOT_RXP01, D14 GPIOT_RXP05, D15 GPIOT_RXP04, D16 GPIOT_RXN02, E11 GPIOT_RXP08_EXTFB0, E12 GPIOT_RXP06, E13 GPIOT_RXP07, E14 GPIOT_RXN05, E15 GPIOT_RXN04, E16 GPIOT_RXP09_CLKP0, F11 GPIOT_RXN08_EXTFB0, F13 GPIOT_RXN07, F16 GPIOT_RXN09_CLKN0
part H pins: A17 GPIOT_RXP19_CLKP1, B17 GPIOT_RXN19_CLKN1, B18 GPIOT_RXP18_EXTFB1, C18 GPIOT_RXN18_EXTFB1, D17 GPIOT_RXP15, D18 GPIOT_RXP16, E17 GPIOT_RXN15, E18 GPIOT_RXN16, F14 GPIOT_RXN14, G14 GPIOT_RXP14, G15 GPIOT_RXP13, G16 GPIOT_RXP12, G17 GPIOT_RXP11, G18 GPIOT_RXN17, H15 GPIOT_RXN13, H16 GPIOT_RXN12, H17 GPIOT_RXN11, H18 GPIOT_RXP17
part I pins: A9 GPIOT_RXN29_CLKN2, A10 GPIOT_RXP28_EXTFB2, A11 GPIOT_RXP27, A12 GPIOT_RXP24, A13 GPIOT_RXN23, A14 GPIOT_RXN22, A15 GPIOT_RXN21, A16 GPIOT_RXN20, B9 GPIOT_RXP29_CLKP2, B10 GPIOT_RXN28_EXTFB2, B11 GPIOT_RXN27, B12 GPIOT_RXN24, B13 GPIOT_RXP23, B14 GPIOT_RXP22, B15 GPIOT_RXP21, B16 GPIOT_RXP20
part J pins: A4 MIPI0_TXDP4, A5 MIPI0_TXDP3, A6 MIPI0_TXDN0, A7 MIPI0_TXDP1, A8 MIPI0_TXDN2, B4 MIPI0_TXDN4, B5 MIPI0_TXDN3, B6 MIPI0_TXDP0, B7 MIPI0_TXDN1, B8 MIPI0_TXDP2, D5 MIPI0_RXDN0, D6 MIPI0_RXDN3, D8 MIPI0_RXDN1, E5 MIPI0_RXDP0, E6 MIPI0_RXDP3, E7 MIPI0_RXDP4, E8 MIPI0_RXDP1, F5 MIPI0_RXDN2, F6 MIPI0_RXDP2, F7 MIPI0_RXDN4
part K pins: A2 MIPI1_TXDN1, A3 MIPI1_TXDN0, B1 MIPI1_TXDN2, B2 MIPI1_TXDP1, B3 MIPI1_TXDP0, C1 MIPI1_TXDP2, D1 MIPI1_TXDN4, D2 MIPI1_TXDP3, D3 MIPI1_RXDP4, D4 MIPI1_RXDP0, E1 MIPI1_TXDP4, E2 MIPI1_TXDN3, E3 MIPI1_RXDN4, E4 MIPI1_RXDN0, F1 MIPI1_RXDN2, F3 MIPI1_RXDP1, G1 MIPI1_RXDP2, G2 MIPI1_RXDN3, G3 MIPI1_RXDN1, H2 MIPI1_RXDP3
part L pins: G5 GPIOR_173_CTRL12, G6 GPIOR_174_CLK15, H6 GPIOR_178_CLK11, K6 GPIOR_183_CTRL10
part M pins: G4 DDR_MEM_DATA[15], H4 DDR_MEM_DATA[13], H5 DDR_MEM_DM[1], J1 DDR_MEM_DATA[8], J3 DDR_MEM_DATA[10], J4 DDR_MEM_DATA[12], J5 DDR_MEM_DATA[14], K1 DDR_MEM_DATA[6], K2 DDR_MEM_DATA[9], K3 DDR_MEM_DATA[11], K5 DDR_MEM_DQS_P[1], L1 DDR_MEM_DM[0], L3 DDR_MEM_DATA[5], L4 DDR_MEM_DATA[7], L5 DDR_MEM_DQS_M[1], M2 DDR_MEM_DATA[3], M3 DDR_MEM_DQS_P[0], M4 DDR_MEM_DATA[4], M6 DDR_MEM_BRITE_VREF, N1 DDR_MEM_DATA[2], N2 DDR_MEM_DATA[1], N3 DDR_MEM_DQS_M[0], N4 DDR_MEM_DATA[0], N5 DDR_MEM_BRITE_ZQ, N6 DDR_MEM_CS_N, N7 DDR_MEM_CKE, P1 DDR_MEM_CLK, P3 DDR_MEM_ADDRESS[0], P4 DDR_MEM_ADDRESS[1], P6 DDR_MEM_ADDRESS[3], R1 DDR_MEM_CLK_N, R3 DDR_MEM_ADDRESS[5], R5 DDR_MEM_BANK[2], R6 DDR_MEM_ADDRESS[2], R7 DDR_MEM_ADDRESS[6], T1 DDR_MEM_ADDRESS[4], T2 DDR_MEM_RESET_N, T3 DDR_MEM_ADDRESS[9], T4 DDR_MEM_ADDRESS[8], T5 DDR_MEM_BANK[0], T6 DDR_MEM_ADDRESS[13], U1 DDR_MEM_ODT, U3 DDR_MEM_BANK[1], U4 DDR_MEM_WE_N, U6 DDR_MEM_ADDRESS[12], U7 DDR_MEM_ADDRESS[11], V2 DDR_MEM_CAS_N, V3 DDR_MEM_RAS_N, V5 DDR_MEM_ADDRESS[15], V6 DDR_MEM_ADDRESS[14], V7 DDR_MEM_ADDRESS[10], V8 DDR_MEM_ADDRESS[7]
part N pins: N9 GPIOB_TXP16_CDI13, N10 GPIOB_TXP14_CDI17, N11 GPIOB_TXP13_CDI19, N12 GPIOB_TXN12, P9 GPIOB_TXN16_CDI12, P10 GPIOB_TXN14_CDI16, P11 GPIOB_TXN13_CDI18, P12 GPIOB_TXP12, R9 GPIOB_TXN19, R12 GPIOB_TXP11, T9 GPIOB_TXP19, T11 GPIOB_TXN18_CDI8, T12 GPIOB_TXN11, U9 GPIOB_TXN17_CDI10, U10 GPIOB_TXP15_CDI15, U11 GPIOB_TXP18_CDI9, U12 GPIOB_TXN10, V9 GPIOB_TXP17_CDI11, V10 GPIOB_TXN15_CDI14, V11 REF_RES_4E, V12 GPIOB_TXP10
part O pins: P13 GPIOB_TXP09, P14 GPIOB_TXP07_CDI23, P18 GPIOB_TXN02, R13 GPIOB_TXN09, R14 GPIOB_TXN07_CDI22, R15 GPIOB_TXN05_CDI26, R17 GPIOB_TXN00, R18 GPIOB_TXP02, T15 GPIOB_TXP05_CDI27, T17 GPIOB_TXP00, T18 GPIOB_TXN01, U13 GPIOB_TXN08_CDI20, U14 GPIOB_TXN06_CDI24, U15 GPIOB_TXP04_CDI29, U16 GPIOB_TXP03_CDI31, U18 GPIOB_TXP01, V13 GPIOB_TXP08_CDI21, V14 GPIOB_TXP06_CDI25, V15 GPIOB_TXN04_CDI28, V16 GPIOB_TXN03_CDI30, V17 REF_RES_4F
part P pins: C9 GPIOR_166_PLLIN0, D9 GPIOR_167_PLLIN1, E9 GPIOR_168_PLLIN2, F10 GPIOR_169_MREFCLK
part Q pins: R8 GPIOR_188_PLLIN2, T8 GPIOR_187_PLLIN1, U8 GPIOR_186_PLLIN0
part A text: Power
part B text: Configuration
part C text: Bank 1B
part D text: Bank 1C
part E text: Bank 1D
part F text: Bank 1E
part G text: Bank 2D
part H text: Bank 2E
part I text: Bank 2F
part J text: MIPI0
part K text: MIPI1
part L text: Bank 3D
part M text: DDRX
part N text: Bank 4E
part O text: Bank 4F
part P text: TR_CORNER
part Q text: BR_CORNER

## TCMT1107
designator U?
pins: 1 A, 2 C, 3 E, 4 C

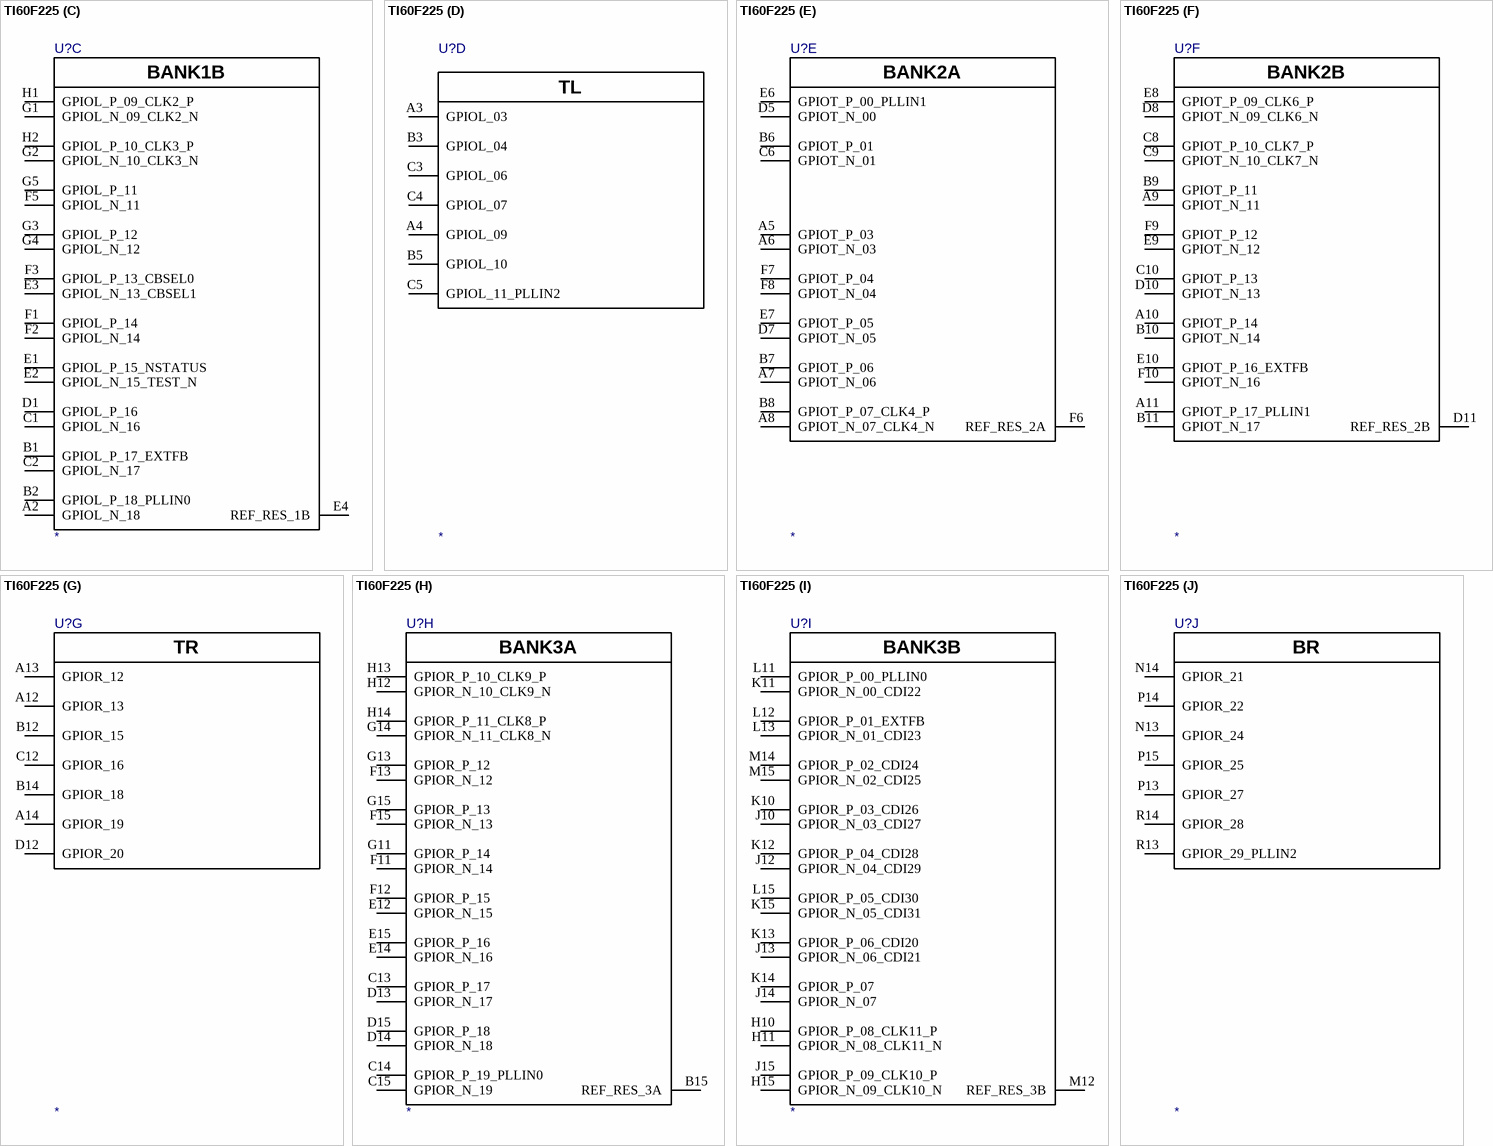
[diagram p37: symbol TI60F225]

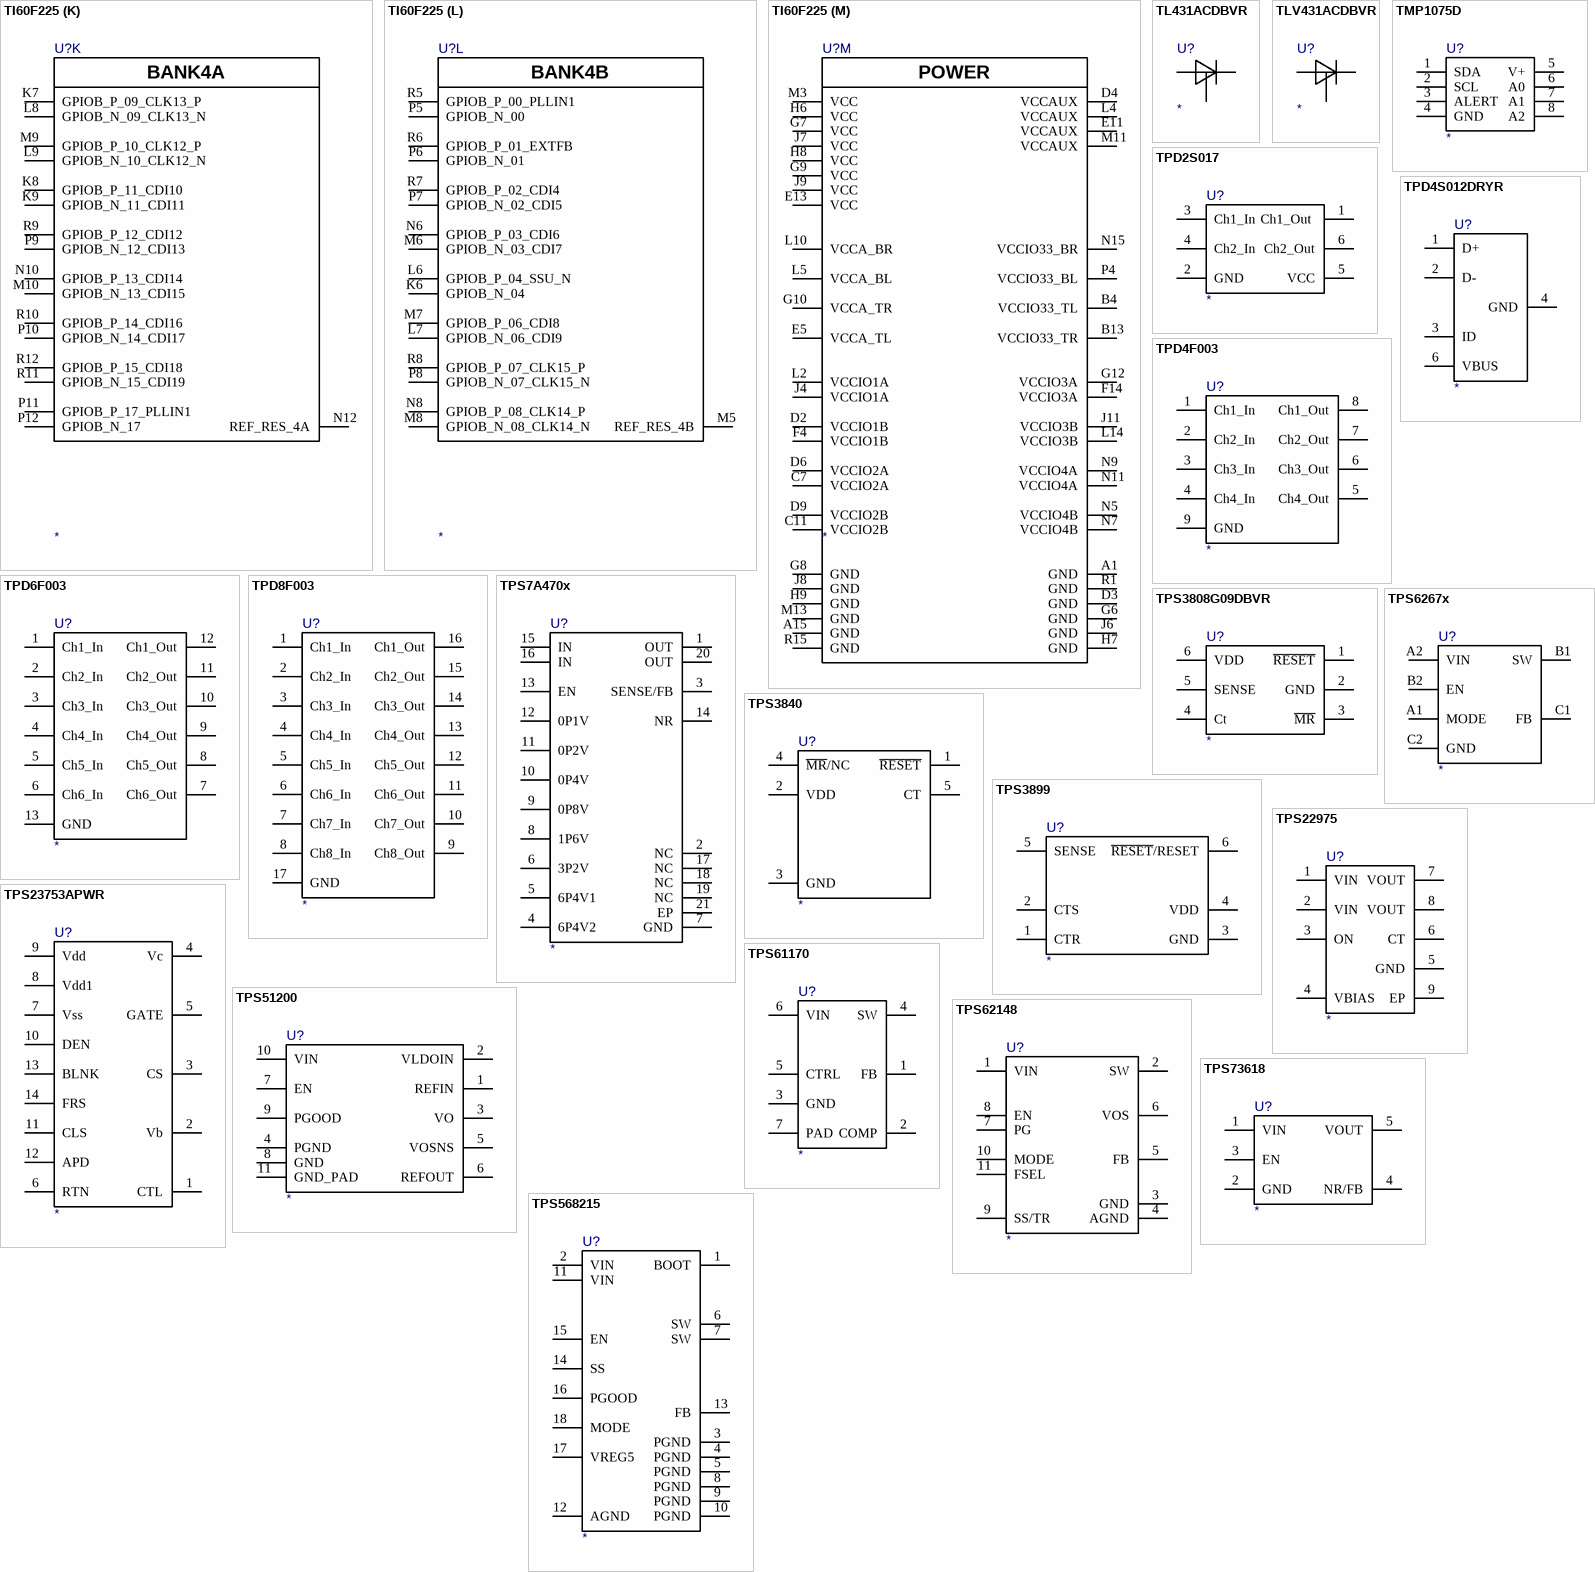
[diagram p38: symbols TI60F225 to TPS568215]

## TI60F225
designator U?
part A pins: M4 TDO, N3 TMS, N4 TCK, P3 TDI, R3 GPIOL_01, R4 GPIOL_02
part B pins: H3 GPIOL_N_08_CLK1_N, H4 GPIOL_N_04_CDI3, H5 GPIOL_P_04_CDI2, J1 GPIOL_N_07_CLK0_N, J2 GPIOL_P_08_CLK1_P, J3 GPIOL_N_05, J5 CRESET_N, K1 GPIOL_P_07_CLK0_P, K2 GPIOL_N_06, K3 GPIOL_P_06, K4 GPIOL_P_05, K5 REF_RES_1A, L1 GPIOL_N_03_CDI1, L3 CDONE, M1 GPIOL_P_03_CDI0, M2 GPIOL_N_02_CSO, N1 GPIOL_N_01_CCK, N2 GPIOL_P_02_CSI, P1 GPIOL_P_01_SSL_N, P2 GPIOL_P_00_PLLIN0, R2 GPIOL_N_00
part C pins: A2 GPIOL_N_18, B1 GPIOL_P_17_EXTFB, B2 GPIOL_P_18_PLLIN0, C1 GPIOL_N_16, C2 GPIOL_N_17, D1 GPIOL_P_16, E1 GPIOL_P_15_NSTATUS, E2 GPIOL_N_15_TEST_N, E3 GPIOL_N_13_CBSEL1, E4 REF_RES_1B, F1 GPIOL_P_14, F2 GPIOL_N_14, F3 GPIOL_P_13_CBSEL0, F5 GPIOL_N_11, G1 GPIOL_N_09_CLK2_N, G2 GPIOL_N_10_CLK3_N, G3 GPIOL_P_12, G4 GPIOL_N_12, G5 GPIOL_P_11, H1 GPIOL_P_09_CLK2_P, H2 GPIOL_P_10_CLK3_P
part D pins: A3 GPIOL_03, A4 GPIOL_09, B3 GPIOL_04, B5 GPIOL_10, C3 GPIOL_06, C4 GPIOL_07, C5 GPIOL_11_PLLIN2
part E pins: A5 GPIOT_P_03, A6 GPIOT_N_03, A7 GPIOT_N_06, A8 GPIOT_N_07_CLK4_N, B6 GPIOT_P_01, B7 GPIOT_P_06, B8 GPIOT_P_07_CLK4_P, C6 GPIOT_N_01, D5 GPIOT_N_00, D7 GPIOT_N_05, E6 GPIOT_P_00_PLLIN1, E7 GPIOT_P_05, F6 REF_RES_2A, F7 GPIOT_P_04, F8 GPIOT_N_04
part F pins: A9 GPIOT_N_11, A10 GPIOT_P_14, A11 GPIOT_P_17_PLLIN1, B9 GPIOT_P_11, B10 GPIOT_N_14, B11 GPIOT_N_17, C8 GPIOT_P_10_CLK7_P, C9 GPIOT_N_10_CLK7_N, C10 GPIOT_P_13, D8 GPIOT_N_09_CLK6_N, D10 GPIOT_N_13, D11 REF_RES_2B, E8 GPIOT_P_09_CLK6_P, E9 GPIOT_N_12, E10 GPIOT_P_16_EXTFB, F9 GPIOT_P_12, F10 GPIOT_N_16
part G pins: A12 GPIOR_13, A13 GPIOR_12, A14 GPIOR_19, B12 GPIOR_15, B14 GPIOR_18, C12 GPIOR_16, D12 GPIOR_20
part H pins: B15 REF_RES_3A, C13 GPIOR_P_17, C14 GPIOR_P_19_PLLIN0, C15 GPIOR_N_19, D13 GPIOR_N_17, D14 GPIOR_N_18, D15 GPIOR_P_18, E12 GPIOR_N_15, E14 GPIOR_N_16, E15 GPIOR_P_16, F11 GPIOR_N_14, F12 GPIOR_P_15, F13 GPIOR_N_12, F15 GPIOR_N_13, G11 GPIOR_P_14, G13 GPIOR_P_12, G14 GPIOR_N_11_CLK8_N, G15 GPIOR_P_13, H12 GPIOR_N_10_CLK9_N, H13 GPIOR_P_10_CLK9_P, H14 GPIOR_P_11_CLK8_P
part I pins: H10 GPIOR_P_08_CLK11_P, H11 GPIOR_N_08_CLK11_N, H15 GPIOR_N_09_CLK10_N, J10 GPIOR_N_03_CDI27, J12 GPIOR_N_04_CDI29, J13 GPIOR_N_06_CDI21, J14 GPIOR_N_07, J15 GPIOR_P_09_CLK10_P, K10 GPIOR_P_03_CDI26, K11 GPIOR_N_00_CDI22, K12 GPIOR_P_04_CDI28, K13 GPIOR_P_06_CDI20, K14 GPIOR_P_07, K15 GPIOR_N_05_CDI31, L11 GPIOR_P_00_PLLIN0, L12 GPIOR_P_01_EXTFB, L13 GPIOR_N_01_CDI23, L15 GPIOR_P_05_CDI30, M12 REF_RES_3B, M14 GPIOR_P_02_CDI24, M15 GPIOR_N_02_CDI25
part J pins: N13 GPIOR_24, N14 GPIOR_21, P13 GPIOR_27, P14 GPIOR_22, P15 GPIOR_25, R13 GPIOR_29_PLLIN2, R14 GPIOR_28
part K pins: K7 GPIOB_P_09_CLK13_P, K8 GPIOB_P_11_CDI10, K9 GPIOB_N_11_CDI11, L8 GPIOB_N_09_CLK13_N, L9 GPIOB_N_10_CLK12_N, M9 GPIOB_P_10_CLK12_P, M10 GPIOB_N_13_CDI15, N10 GPIOB_P_13_CDI14, N12 REF_RES_4A, P9 GPIOB_N_12_CDI13, P10 GPIOB_N_14_CDI17, P11 GPIOB_P_17_PLLIN1, P12 GPIOB_N_17, R9 GPIOB_P_12_CDI12, R10 GPIOB_P_14_CDI16, R11 GPIOB_N_15_CDI19, R12 GPIOB_P_15_CDI18
part L pins: K6 GPIOB_N_04, L6 GPIOB_P_04_SSU_N, L7 GPIOB_N_06_CDI9, M5 REF_RES_4B, M6 GPIOB_N_03_CDI7, M7 GPIOB_P_06_CDI8, M8 GPIOB_N_08_CLK14_N, N6 GPIOB_P_03_CDI6, N8 GPIOB_P_08_CLK14_P, P5 GPIOB_N_00, P6 GPIOB_N_01, P7 GPIOB_N_02_CDI5, P8 GPIOB_N_07_CLK15_N, R5 GPIOB_P_00_PLLIN1, R6 GPIOB_P_01_EXTFB, R7 GPIOB_P_02_CDI4, R8 GPIOB_P_07_CLK15_P
part M pins: A1 GND, A15 GND, B4 VCCIO33_TL, B13 VCCIO33_TR, C7 VCCIO2A, C11 VCCIO2B, D2 VCCIO1B, D3 GND, D4 VCCAUX, D6 VCCIO2A, D9 VCCIO2B, E5 VCCA_TL, E11 VCCAUX, E13 VCC, F4 VCCIO1B, F14 VCCIO3A, G6 GND, G7 VCC, G8 GND, G9 VCC, G10 VCCA_TR, G12 VCCIO3A, H6 VCC, H7 GND, H8 VCC, H9 GND, J4 VCCIO1A, J6 GND, J7 VCC, J8 GND, J9 VCC, J11 VCCIO3B, L2 VCCIO1A, L4 VCCAUX, L5 VCCA_BL, L10 VCCA_BR, L14 VCCIO3B, M3 VCC, M11 VCCAUX, M13 GND, N5 VCCIO4B, N7 VCCIO4B, N9 VCCIO4A, N11 VCCIO4A, N15 VCCIO33_BR, P4 VCCIO33_BL, R1 GND, R15 GND
part A text: BL
part B text: BANK1A
part C text: BANK1B
part D text: TL
part E text: BANK2A
part F text: BANK2B
part G text: TR
part H text: BANK3A
part I text: BANK3B
part J text: BR
part K text: BANK4A
part L text: BANK4B
part M text: POWER

## TL431ACDBVR
designator U?
pins: 2 ANODE, 4 CATHODE, 5 REF

## TLV431ACDBVR
designator U?
pins: 3 REF, 4 CATHODE, 5 ANODE

## TMP1075D
designator U?
pins: 1 SDA, 2 SCL, 3 ALERT, 4 GND, 5 V+, 6 A0, 7 A1, 8 A2

## TPD2S017
designator U?
pins: 1 Ch1_Out , 2 GND, 3 Ch1_In, 4 Ch2_In, 5 VCC, 6 Ch2_Out

## TPD4F003
designator U?
pins: 1 Ch1_In, 2 Ch2_In, 3 Ch3_In, 4 Ch4_In, 5 Ch4_Out, 6 Ch3_Out, 7 Ch2_Out, 8 Ch1_Out, 9 GND

## TPD4S012DRYR
designator U?
pins: 1 D+, 2 D-, 3 ID, 4 GND, 6 VBUS

## TPD6F003
designator U?
pins: 1 Ch1_In, 2 Ch2_In, 3 Ch3_In, 4 Ch4_In, 5 Ch5_In, 6 Ch6_In, 7 Ch6_Out, 8 Ch5_Out, 9 Ch4_Out, 10 Ch3_Out, 11 Ch2_Out, 12 Ch1_Out, 13 GND

## TPD8F003
designator U?
pins: 1 Ch1_In, 2 Ch2_In, 3 Ch3_In, 4 Ch4_In, 5 Ch5_In, 6 Ch6_In, 7 Ch7_In, 8 Ch8_In, 9 Ch8_Out, 10 Ch7_Out, 11 Ch6_Out, 12 Ch5_Out, 13 Ch4_Out, 14 Ch3_Out, 15 Ch2_Out, 16 Ch1_Out, 17 GND

## TPS7A470x
designator U?
pins: 1 OUT, 2 NC, 3 SENSE/FB, 4 6P4V2, 5 6P4V1, 6 3P2V, 7 GND, 8 1P6V, 9 0P8V, 10 0P4V, 11 0P2V, 12 0P1V, 13 EN, 14 NR, 15 IN, 16 IN, 17 NC, 18 NC, 19 NC, 20 OUT, 21 EP

## TPS3808G09DBVR
designator U?
pins: 1 ~{RESET}, 2 GND, 3 ~{MR}, 4 Ct, 5 SENSE, 6 VDD

## TPS3840
designator U?
pins: 1 ~{RESET}, 2 VDD, 3 GND, 4 ~{MR}/NC, 5 CT

## TPS3899
designator U?
pins: 1 CTR, 2 CTS, 3 GND, 4 VDD, 5 SENSE, 6 ~{RESET}/RESET

## TPS6267x
designator U?
pins: A1 MODE, A2 VIN, B1 SW, B2 EN, C1 FB, C2 GND

## TPS22975
designator U?
pins: 1 VIN, 2 VIN, 3 ON, 4 VBIAS, 5 GND, 6 CT, 7 VOUT, 8 VOUT, 9 EP

## TPS23753APWR
designator U?
pins: 1 CTL, 2 Vb, 3 CS, 4 Vc, 5 GATE, 6 RTN, 7 Vss, 8 Vdd1, 9 Vdd, 10 DEN, 11 CLS, 12 APD, 13 BLNK, 14 FRS

## TPS51200
designator U?
pins: 1 REFIN, 2 VLDOIN, 3 VO, 4 PGND, 5 VOSNS, 6 REFOUT, 7 EN, 8 GND, 9 PGOOD, 10 VIN, 11 GND_PAD

## TPS61170
designator U?
pins: 1 FB, 2 COMP, 3 GND, 4 SW, 5 CTRL, 6 VIN, 7 PAD

## TPS62148
designator U?
pins: 1 VIN, 2 SW, 3 GND, 4 AGND, 5 FB, 6 VOS, 7 PG, 8 EN, 9 SS/TR, 10 MODE, 11 FSEL

## TPS73618
designator U?
pins: 1 VIN, 2 GND, 3 EN, 4 NR/FB, 5 VOUT

## TPS568215
designator U?
pins: 1 BOOT, 2 VIN, 3 PGND, 4 PGND, 5 PGND, 6 SW, 7 SW, 8 PGND, 9 PGND, 10 PGND, 11 VIN, 12 AGND, 13 FB, 14 SS, 15 EN, 16 PGOOD, 17 VREG5, 18 MODE

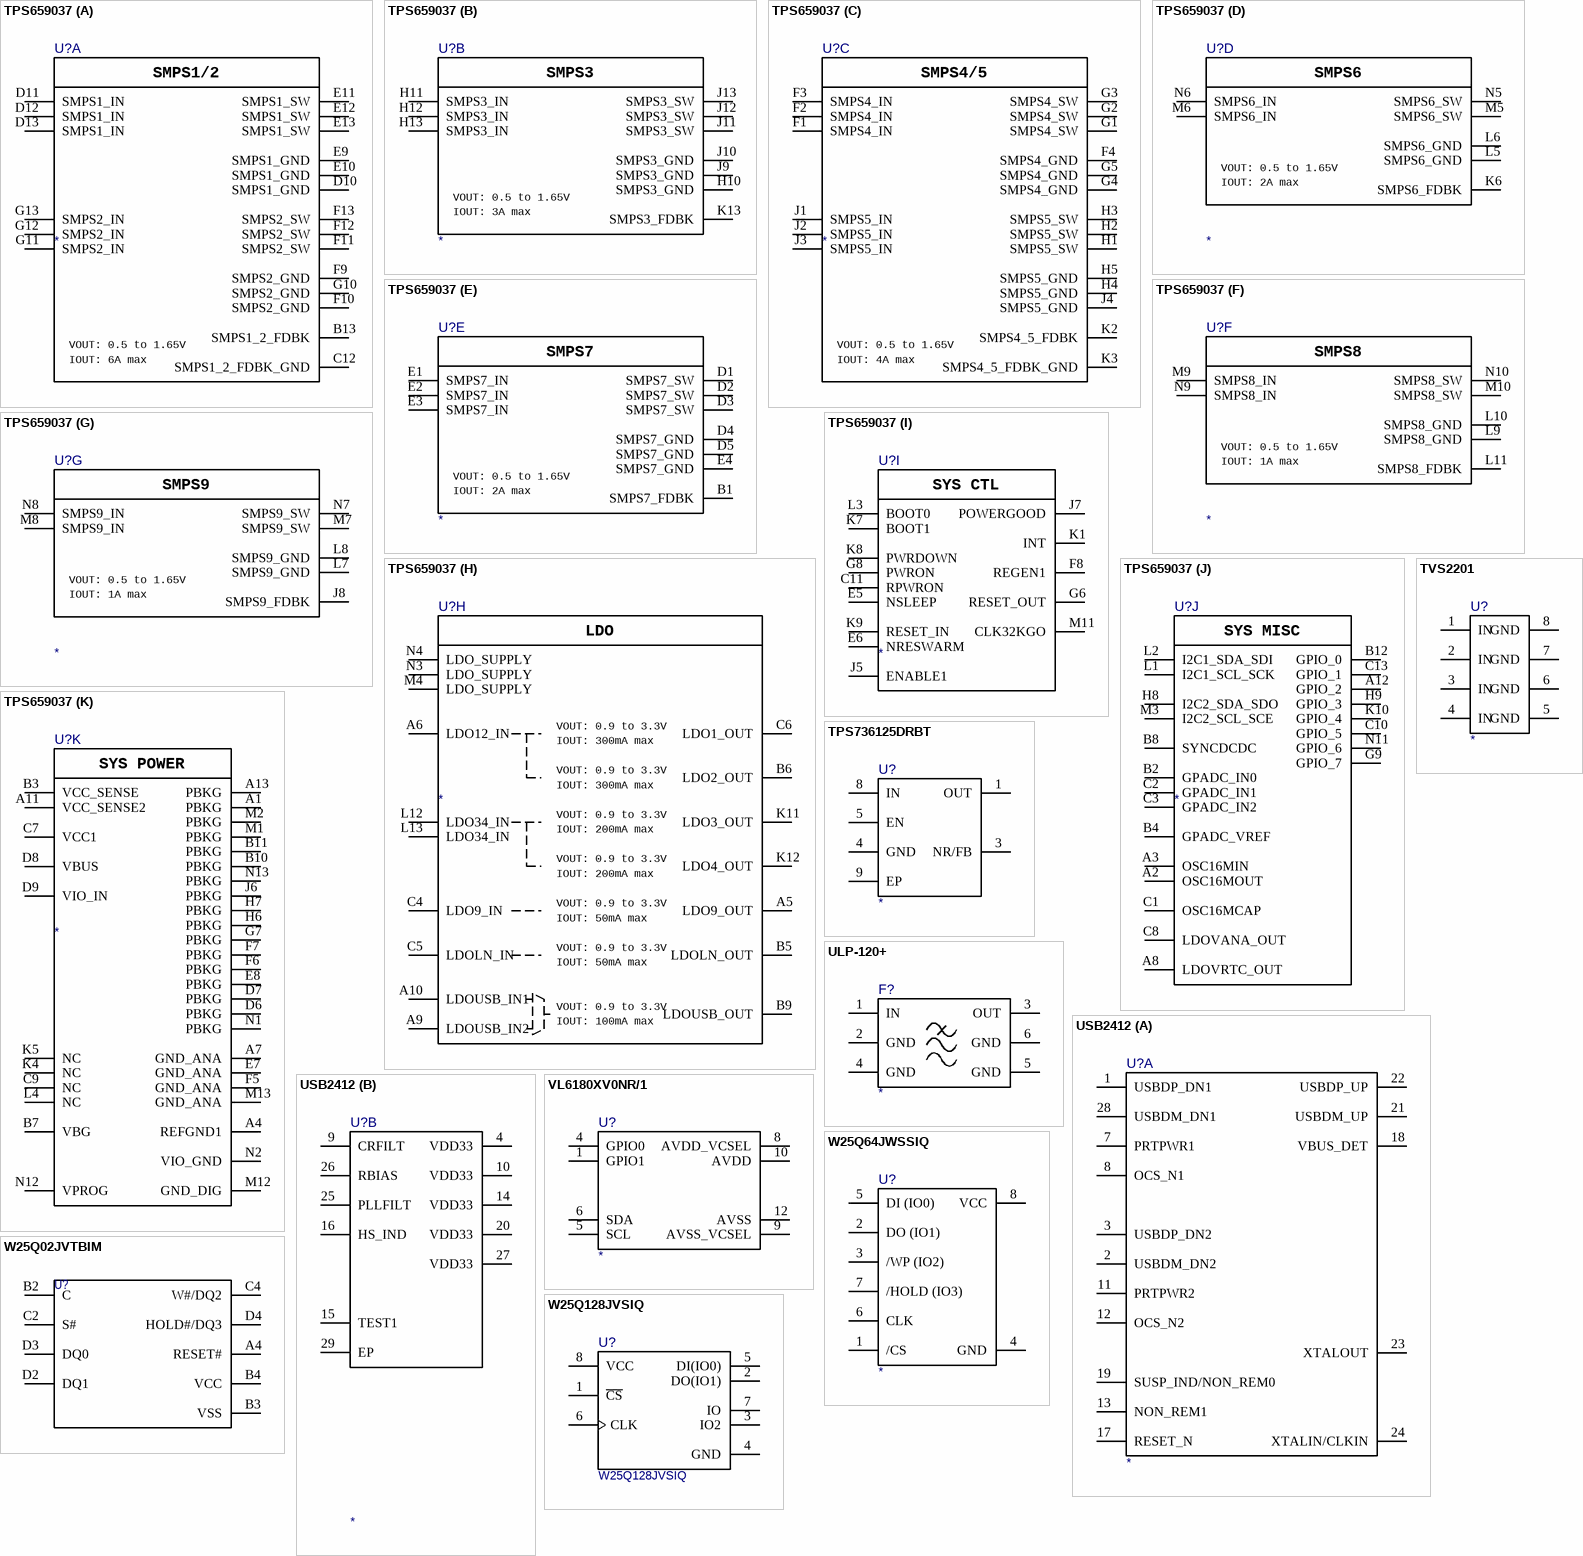
[diagram p39: symbols TPS659037 to W25Q128JVSIQ]

## TPS659037
designator U?
part A pins: B13 SMPS1_2_FDBK, C12 SMPS1_2_FDBK_GND, D10 SMPS1_GND, D11 SMPS1_IN, D12 SMPS1_IN, D13 SMPS1_IN, E9 SMPS1_GND, E10 SMPS1_GND, E11 SMPS1_SW, E12 SMPS1_SW, E13 SMPS1_SW, F9 SMPS2_GND, F10 SMPS2_GND, F11 SMPS2_SW, F12 SMPS2_SW, F13 SMPS2_SW, G10 SMPS2_GND, G11 SMPS2_IN, G12 SMPS2_IN, G13 SMPS2_IN
part B pins: H10 SMPS3_GND, H11 SMPS3_IN, H12 SMPS3_IN, H13 SMPS3_IN, J9 SMPS3_GND, J10 SMPS3_GND, J11 SMPS3_SW, J12 SMPS3_SW, J13 SMPS3_SW, K13 SMPS3_FDBK
part C pins: F1 SMPS4_IN, F2 SMPS4_IN, F3 SMPS4_IN, F4 SMPS4_GND, G1 SMPS4_SW, G2 SMPS4_SW, G3 SMPS4_SW, G4 SMPS4_GND, G5 SMPS4_GND, H1 SMPS5_SW, H2 SMPS5_SW, H3 SMPS5_SW, H4 SMPS5_GND, H5 SMPS5_GND, J1 SMPS5_IN, J2 SMPS5_IN, J3 SMPS5_IN, J4 SMPS5_GND, K2 SMPS4_5_FDBK, K3 SMPS4_5_FDBK_GND
part D pins: K6 SMPS6_FDBK, L5 SMPS6_GND, L6 SMPS6_GND, M5 SMPS6_SW, M6 SMPS6_IN, N5 SMPS6_SW, N6 SMPS6_IN
part E pins: B1 SMPS7_FDBK, D1 SMPS7_SW, D2 SMPS7_SW, D3 SMPS7_SW, D4 SMPS7_GND, D5 SMPS7_GND, E1 SMPS7_IN, E2 SMPS7_IN, E3 SMPS7_IN, E4 SMPS7_GND
part F pins: L9 SMPS8_GND, L10 SMPS8_GND, L11 SMPS8_FDBK, M9 SMPS8_IN, M10 SMPS8_SW, N9 SMPS8_IN, N10 SMPS8_SW
part G pins: J8 SMPS9_FDBK, L7 SMPS9_GND, L8 SMPS9_GND, M7 SMPS9_SW, M8 SMPS9_IN, N7 SMPS9_SW, N8 SMPS9_IN
part H pins: A5 LDO9_OUT, A6 LDO12_IN, A9 LDOUSB_IN2, A10 LDOUSB_IN1, B5 LDOLN_OUT, B6 LDO2_OUT, B9 LDOUSB_OUT, C4 LDO9_IN, C5 LDOLN_IN, C6 LDO1_OUT, K11 LDO3_OUT, K12 LDO4_OUT, L12 LDO34_IN, L13 LDO34_IN, M4 LDO_SUPPLY, N3 LDO_SUPPLY, N4 LDO_SUPPLY
part I pins: C11 RPWRON, E5 NSLEEP, E6 NRESWARM, F8 REGEN1, G6 RESET_OUT, G8 PWRON, J5 ENABLE1, J7 POWERGOOD, K1 INT, K7 BOOT1, K8 PWRDOWN, K9 RESET_IN, L3 BOOT0, M11 CLK32KGO
part J pins: A2 OSC16MOUT, A3 OSC16MIN, A8 LDOVRTC_OUT, A12 GPIO_2, B2 GPADC_IN0, B4 GPADC_VREF, B8 SYNCDCDC, B12 GPIO_0, C1 OSC16MCAP, C2 GPADC_IN1, C3 GPADC_IN2, C8 LDOVANA_OUT, C10 GPIO_5, C13 GPIO_1, G9 GPIO_7, H8 I2C2_SDA_SDO, H9 GPIO_3, K10 GPIO_4, L1 I2C1_SCL_SCK, L2 I2C1_SDA_SDI, M3 I2C2_SCL_SCE, N11 GPIO_6
part K pins: A1 PBKG, A4 REFGND1, A7 GND_ANA, A11 VCC_SENSE2, A13 PBKG, B3 VCC_SENSE, B7 VBG, B10 PBKG, B11 PBKG, C7 VCC1, C9 NC, D6 PBKG, D7 PBKG, D8 VBUS, D9 VIO_IN, E7 GND_ANA, E8 PBKG, F5 GND_ANA, F6 PBKG, F7 PBKG, G7 PBKG, H6 PBKG, H7 PBKG, J6 PBKG, K4 NC, K5 NC, L4 NC, M1 PBKG, M2 PBKG, M12 GND_DIG, M13 GND_ANA, N1 PBKG, N2 VIO_GND, N12 VPROG, N13 PBKG
part A text: SMPS1/2; VOUT: 0.5 to 1.65V; IOUT: 6A max
part B text: SMPS3; VOUT: 0.5 to 1.65V; IOUT: 3A max
part C text: SMPS4/5; VOUT: 0.5 to 1.65V; IOUT: 4A max
part D text: SMPS6; VOUT: 0.5 to 1.65V; IOUT: 2A max
part E text: SMPS7; VOUT: 0.5 to 1.65V; IOUT: 2A max
part F text: SMPS8; VOUT: 0.5 to 1.65V; IOUT: 1A max
part G text: SMPS9; VOUT: 0.5 to 1.65V; IOUT: 1A max
part H text: LDO; VOUT: 0.9 to 3.3V; IOUT: 300mA max; IOUT: 200mA max; IOUT: 50mA max; IOUT: 100mA max
part I text: SYS CTL
part J text: SYS MISC
part K text: SYS POWER

## TPS736125DRBT
designator U?
pins: 1 OUT, 3 NR/FB, 4 GND, 5 EN, 8 IN, 9 EP

## TVS2201
designator U?
pins: 1 IN, 2 IN, 3 IN, 4 IN, 5 GND, 6 GND, 7 GND, 8 GND

## ULP-120+
designator F?
pins: 1 IN, 2 GND, 3 OUT, 4 GND, 5 GND, 6 GND

## USB2412
designator U?
part A pins: 1 USBDP_DN1, 2 USBDM_DN2, 3 USBDP_DN2, 7 PRTPWR1, 8 OCS_N1, 11 PRTPWR2, 12 OCS_N2, 13 NON_REM1, 17 RESET_N, 18 VBUS_DET, 19 SUSP_IND/NON_REM0, 21 USBDM_UP, 22 USBDP_UP, 23 XTALOUT, 24 XTALIN/CLKIN, 28 USBDM_DN1
part B pins: 4 VDD33, 9 CRFILT, 10 VDD33, 14 VDD33, 15 TEST1, 16 HS_IND, 20 VDD33, 25 PLLFILT, 26 RBIAS, 27 VDD33, 29 EP

## VL6180XV0NR/1
designator U?
pins: 1 GPIO1, 4 GPIO0, 5 SCL, 6 SDA, 8 AVDD_VCSEL, 9 AVSS_VCSEL, 10 AVDD, 12 AVSS

## W25Q02JVTBIM
designator U?  (value not drawn)
pins: A4 RESET# "mosi (data in) when in SPI, IO when in dualSPI, IO when in quadSPI except PROG&ERASE", B2 C "Clock", B3 VSS, B4 VCC, C2 S# "Chip select", C4 W#/DQ2 "When low acts as a write protect, Vpp may speed up write operation (optional)", D2 DQ1 "miso (data out) when in SPI, in dual/quad SPI acts like DQ0", D3 DQ0 "mosi (data in) when in SPI, IO when in dualSPI, IO when in quadSPI except PROG&ERASE", D4 HOLD#/DQ3 "Hold is used to pauses any serial communications without deselecting the device"

## W25Q64JWSSIQ
designator U?
pins: 1 /CS, 2 DO (IO1), 3 /WP (IO2), 4 GND, 5 DI (IO0), 6 CLK, 7 /HOLD (IO3), 8 VCC

## W25Q128JVSIQ
designator U?
pins: 1 ~{CS}, 2 DO(IO1), 3 IO2, 4 GND, 5 DI(IO0), 6 CLK, 7 IO, 8 VCC

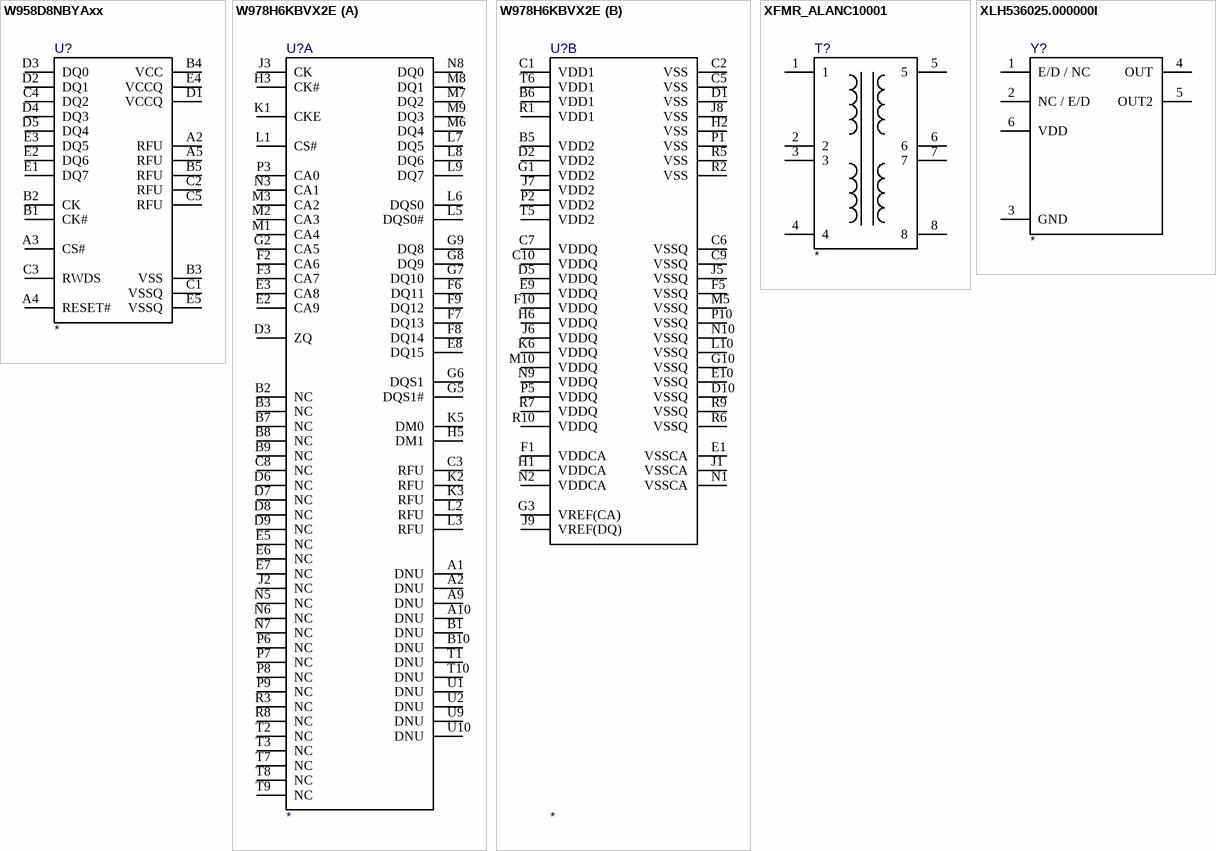
[diagram p40: symbols W958D8NBYAxx to XLH536025.000000I]

## W958D8NBYAxx
designator U?
pins: A2 RFU, A3 CS#, A4 RESET#, A5 RFU, B1 CK#, B2 CK, B3 VSS, B4 VCC, B5 RFU, C1 VSSQ, C2 RFU, C3 RWDS, C4 DQ2, C5 RFU, D1 VCCQ, D2 DQ1, D3 DQ0, D4 DQ3, D5 DQ4, E1 DQ7, E2 DQ6, E3 DQ5, E4 VCCQ, E5 VSSQ

## W978H6KBVX2E
designator U?
part A pins: A1 DNU, A2 DNU, A9 DNU, A10 DNU, B1 DNU, B2 NC, B3 NC, B7 NC, B8 NC, B9 NC, B10 DNU, C3 RFU, C8 NC, D3 ZQ, D6 NC, D7 NC, D8 NC, D9 NC, E2 CA9, E3 CA8, E5 NC, E6 NC, E7 NC, E8 DQ15, F2 CA6, F3 CA7, F6 DQ11, F7 DQ13, F8 DQ14, F9 DQ12, G2 CA5, G5 DQS1#, G6 DQS1, G7 DQ10, G8 DQ9, G9 DQ8, H3 CK#, H5 DM1, J2 NC, J3 CK, K1 CKE, K2 RFU, K3 RFU, K5 DM0, L1 CS#, L2 RFU, L3 RFU, L5 DQS0#, L6 DQS0, L7 DQ5, L8 DQ6, L9 DQ7, M1 CA4, M2 CA3, M3 CA2, M6 DQ4, M7 DQ2, M8 DQ1, M9 DQ3, N3 CA1, N5 NC, N6 NC, N7 NC, N8 DQ0, P3 CA0, P6 NC, P7 NC, P8 NC, P9 NC, R3 NC, R8 NC, T1 DNU, T2 NC, T3 NC, T7 NC, T8 NC, T9 NC, T10 DNU, U1 DNU, U2 DNU, U9 DNU, U10 DNU
part B pins: B5 VDD2 (power), B6 VDD1 (power), C1 VDD1 (power), C2 VSS, C5 VSS, C6 VSSQ, C7 VDDQ (power), C9 VSSQ, C10 VDDQ (power), D1 VSS, D2 VDD2 (power), D5 VDDQ (power), D10 VSSQ, E1 VSSCA, E9 VDDQ (power), E10 VSSQ, F1 VDDCA (power), F5 VSSQ, F10 VDDQ (power), G1 VDD2 (power), G3 VREF(CA) (power), G10 VSSQ, H1 VDDCA (power), H2 VSS, H6 VDDQ (power), J1 VSSCA, J5 VSSQ, J6 VDDQ (power), J7 VDD2 (power), J8 VSS, J9 VREF(DQ) (power), K6 VDDQ (power), L10 VSSQ, M5 VSSQ, M10 VDDQ (power), N1 VSSCA, N2 VDDCA (power), N9 VDDQ (power), N10 VSSQ, P1 VSS, P2 VDD2 (power), P5 VDDQ (power), P10 VSSQ, R1 VDD1 (power), R2 VSS, R5 VSS, R6 VSSQ, R7 VDDQ (power), R9 VSSQ, R10 VDDQ (power), T5 VDD2 (power), T6 VDD1 (power)

## XFMR_ALANC10001
designator T?
pins: 1, 2, 3, 4, 5, 6, 7, 8

## XLH536025.000000I
designator Y?
pins: 1 E/D / NC, 2 NC / E/D, 3 GND, 4 OUT, 5 OUT2, 6 VDD